# Altium schematic symbol library MCU_ST_STM32H7.SchLib: 225 symbols (part 9 of 9)
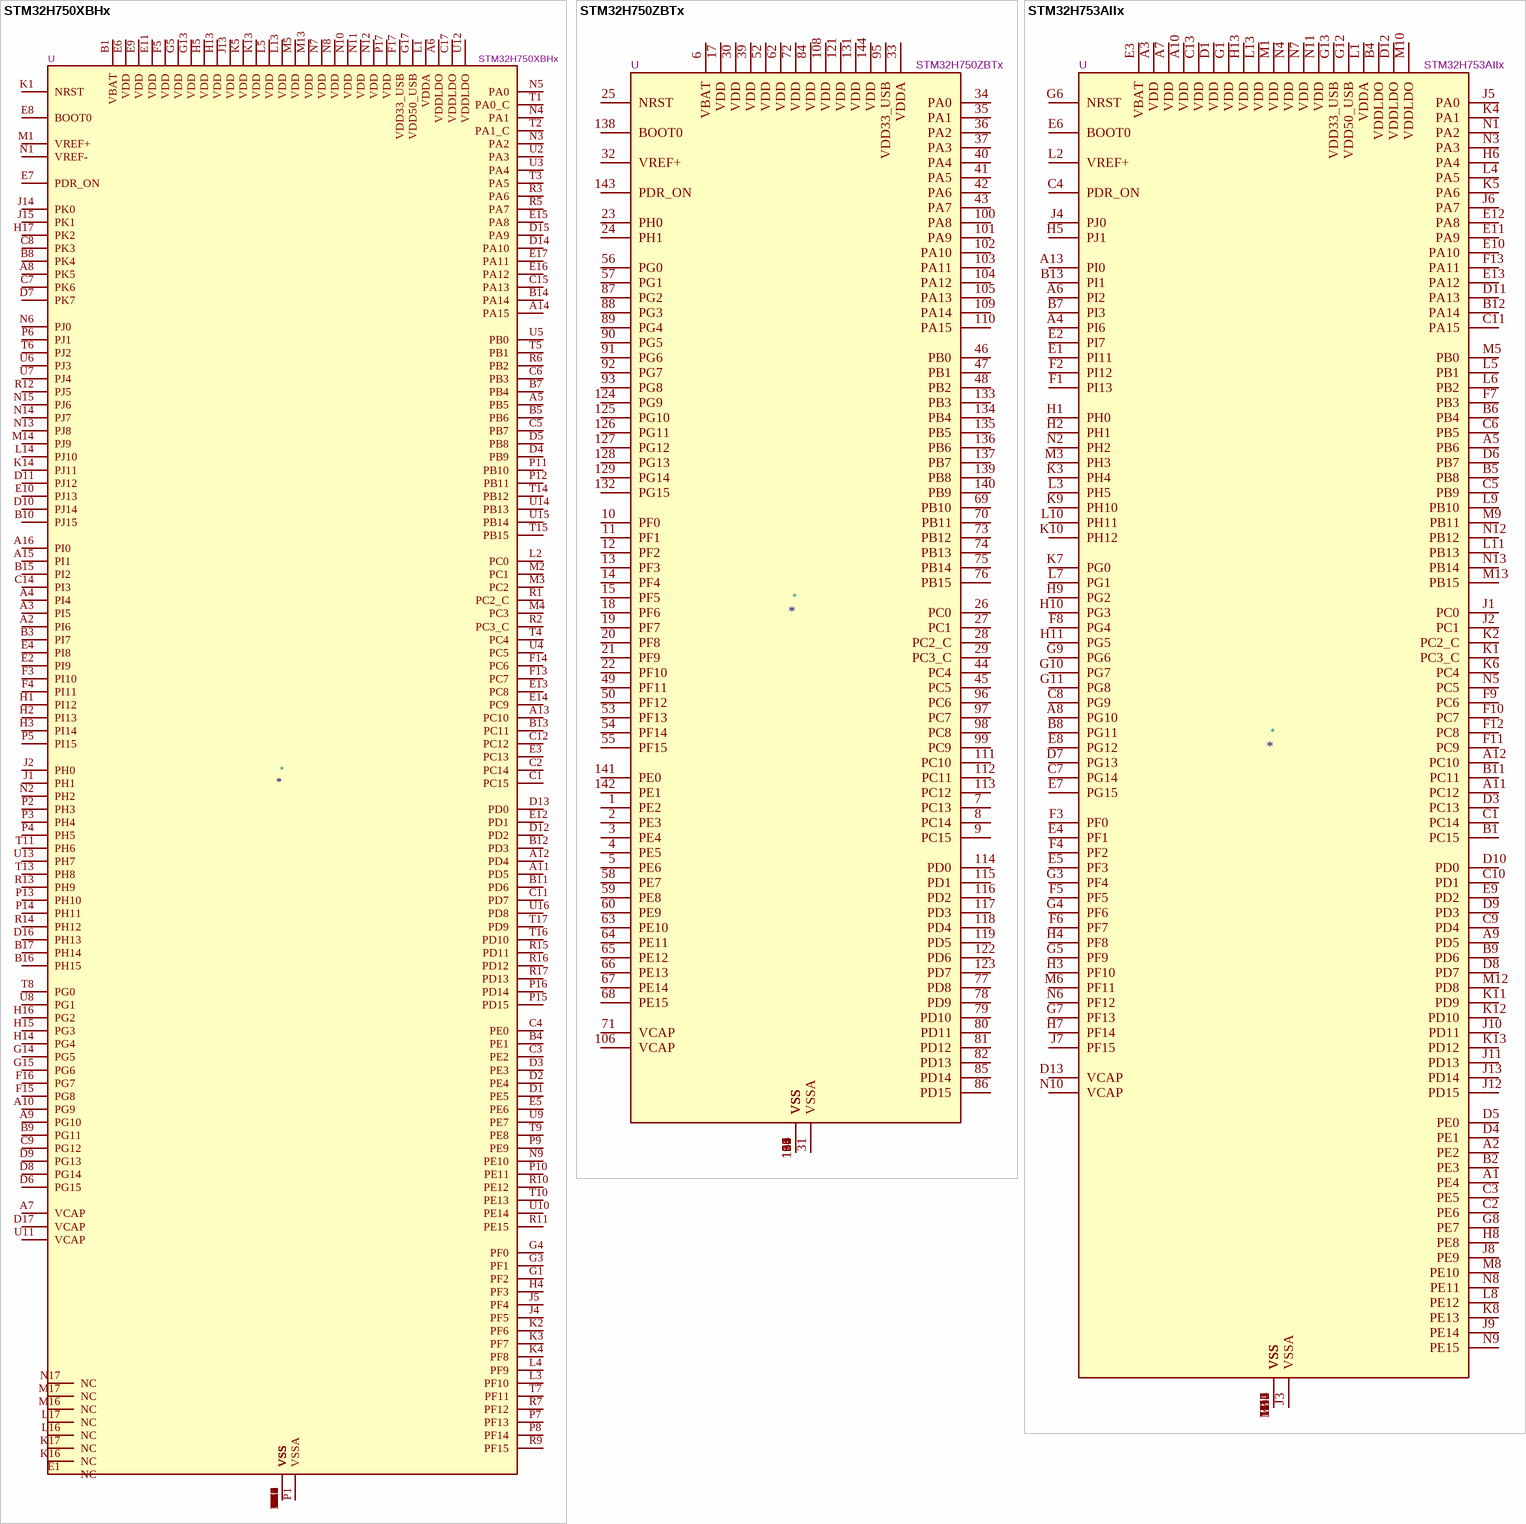
[diagram p95: symbols STM32H750XBHx to STM32H753AIIx]

## STM32H750XBHx
designator *  value STM32H750XBHx  Reference: U
STMicroelectronics Arm Cortex-M7 MCU, 128KB flash, 1024KB RAM, 480 MHz, 1.62-3.6V, 172 GPIO, TFBGA240; ki_keywords: Arm Cortex-M7 STM32H7 STM32H750 Value line; ki_fp_filters: TFBGA*14x14mm*Layout17x17*P0.8mm*; Footprint: Package_BGA:TFBGA-265_14x14mm_Layout17x17_P0.8mm; Datasheet: https://www.st.com/resource/en/datasheet/stm32h750xb.pdf; Description_: STMicroelectronics Arm Cortex-M7 MCU, 128KB flash, 1024KB RAM, 480 MHz, 1.62-3.6V, 172 GPIO, TFBGA240
pins: A1 VSS, A2 PI6, A3 PI5, A4 PI4, A5 PB5, A6 VDDLDO, A7 VCAP, A8 PK5, A9 PG10, A10 PG9, A11 PD5, A12 PD4, A13 PC10, A14 PA15, A15 PI1, A16 PI0, A17 VSS, B1 VBAT, B2 VSS, B3 PI7, B4 PE1, B5 PB6, B6 VSS, B7 PB4, B8 PK4, B9 PG11, B10 PJ15, B11 PD6, B12 PD3, B13 PC11, B14 PA14, B15 PI2, B16 PH15, B17 PH14, C1 PC15, C2 PC14, C3 PE2, C4 PE0, C5 PB7, C6 PB3, C7 PK6, C8 PK3, C9 PG12, C10 VSS, C11 PD7, C12 PC12, C13 VSS, C14 PI3, C15 PA13, C16 VSS, C17 VDDLDO, D1 PE5, D2 PE4, D3 PE3, D4 PB9, D5 PB8, D6 PG15, D7 PK7, D8 PG14, D9 PG13, D10 PJ14, D11 PJ12, D12 PD2, D13 PD0, D14 PA10, D15 PA9, D16 PH13, D17 VCAP, E1 NC, E2 PI9, E3 PC13, E4 PI8, E5 PE6, E6 VDD, E7 PDR_ON, E8 BOOT0, E9 VDD, E10 PJ13, E11 VDD, E12 PD1, E13 PC8, E14 PC9, E15 PA8, E16 PA12, E17 PA11, F1 VSS, F2 VSS, F3 PI10, F4 PI11, F5 VDD, F13 PC7, F14 PC6, F15 PG8, F16 PG7, F17 VDD33_USB, G1 PF2, G2 VSS, G3 PF1, G4 PF0, G5 VDD, G7 VSS, G8 VSS, G9 VSS, G10 VSS, G11 VSS, G13 VDD, G14 PG5, G15 PG6, G16 VSS, G17 VDD50_USB, H1 PI12, H2 PI13, H3 PI14, H4 PF3, H5 VDD, H7 VSS, H8 VSS, H9 VSS, H10 VSS, H11 VSS, H13 VDD, H14 PG4, H15 PG3, H16 PG2, H17 PK2, J1 PH1, J2 PH0, J3 VSS, J4 PF5, J5 PF4, J7 VSS, J8 VSS, J9 VSS, J10 VSS, J11 VSS, J13 VDD, J14 PK0, J15 PK1, J16 VSS, J17 VSS, K1 NRST, K2 PF6, K3 PF7, K4 PF8, K5 VDD, K7 VSS, K8 VSS, K9 VSS, K10 VSS, K11 VSS, K13 VDD, K14 PJ11, K15 VSS, K16 NC, K17 NC, L1 VDDA, L2 PC0, L3 PF10, L4 PF9, L5 VDD, L7 VSS, L8 VSS, L9 VSS, L10 VSS, L11 VSS, L13 VDD, L14 PJ10, L15 VSS, L16 NC, L17 NC, M1 VREF+, M2 PC1, M3 PC2, M4 PC3, M5 VDD, M13 VDD, M14 PJ9, M15 VSS, M16 NC, M17 NC, N1 VREF-, N2 PH2, N3 PA2, N4 PA1, N5 PA0, N6 PJ0, N7 VDD, N8 VDD, N9 PE10, N10 VDD, N11 VDD, N12 VDD, N13 PJ8, N14 PJ7, N15 PJ6, N16 VSS, N17 NC, P1 VSSA, P2 PH3, P3 PH4, P4 PH5, P5 PI15, P6 PJ1, P7 PF13, P8 PF14, P9 PE9, P10 PE11, P11 PB10, P12 PB11, P13 PH10, P14 PH11, P15 PD15, P16 PD14, P17 VDD, R1 PC2_C, R2 PC3_C, R3 PA6, R4 VSS, R5 PA7, R6 PB2, R7 PF12, R8 VSS, R9 PF15, R10 PE12, R11 PE15, R12 PJ5, R13 PH9, R14 PH12, R15 PD11, R16 PD12, R17 PD13, T1 PA0_C, T2 PA1_C, T3 PA5, T4 PC4, T5 PB1, T6 PJ2, T7 PF11, T8 PG0, T9 PE8, T10 PE13, T11 PH6, T12 VSS, T13 PH8, T14 PB12, T15 PB15, T16 PD10, T17 PD9, U1 VSS, U2 PA3, U3 PA4, U4 PC5, U5 PB0, U6 PJ3, U7 PJ4, U8 PG1, U9 PE7, U10 PE14, U11 VCAP, U12 VDDLDO, U13 PH7, U14 PB13, U15 PB14, U16 PD8, U17 VSS

## STM32H750ZBTx
designator *  value STM32H750ZBTx  Reference: U
STMicroelectronics Arm Cortex-M7 MCU, 128KB flash, 1024KB RAM, 480 MHz, 1.62-3.6V, 114 GPIO, LQFP144; ki_keywords: Arm Cortex-M7 STM32H7 STM32H750 Value line; ki_fp_filters: LQFP*20x20mm*P0.5mm*; Footprint: Package_QFP:LQFP-144_20x20mm_P0.5mm; Datasheet: https://www.st.com/resource/en/datasheet/stm32h750zb.pdf; Description_: STMicroelectronics Arm Cortex-M7 MCU, 128KB flash, 1024KB RAM, 480 MHz, 1.62-3.6V, 114 GPIO, LQFP144
pins: 1 PE2, 2 PE3, 3 PE4, 4 PE5, 5 PE6, 6 VBAT, 7 PC13, 8 PC14, 9 PC15, 10 PF0, 11 PF1, 12 PF2, 13 PF3, 14 PF4, 15 PF5, 16 VSS, 17 VDD, 18 PF6, 19 PF7, 20 PF8, 21 PF9, 22 PF10, 23 PH0, 24 PH1, 25 NRST, 26 PC0, 27 PC1, 28 PC2_C, 29 PC3_C, 30 VDD, 31 VSSA, 32 VREF+, 33 VDDA, 34 PA0, 35 PA1, 36 PA2, 37 PA3, 38 VSS, 39 VDD, 40 PA4, 41 PA5, 42 PA6, 43 PA7, 44 PC4, 45 PC5, 46 PB0, 47 PB1, 48 PB2, 49 PF11, 50 PF12, 51 VSS, 52 VDD, 53 PF13, 54 PF14, 55 PF15, 56 PG0, 57 PG1, 58 PE7, 59 PE8, 60 PE9, 61 VSS, 62 VDD, 63 PE10, 64 PE11, 65 PE12, 66 PE13, 67 PE14, 68 PE15, 69 PB10, 70 PB11, 71 VCAP, 72 VDD, 73 PB12, 74 PB13, 75 PB14, 76 PB15, 77 PD8, 78 PD9, 79 PD10, 80 PD11, 81 PD12, 82 PD13, 83 VSS, 84 VDD, 85 PD14, 86 PD15, 87 PG2, 88 PG3, 89 PG4, 90 PG5, 91 PG6, 92 PG7, 93 PG8, 94 VSS, 95 VDD33_USB, 96 PC6, 97 PC7, 98 PC8, 99 PC9, 100 PA8, 101 PA9, 102 PA10, 103 PA11, 104 PA12, 105 PA13, 106 VCAP, 107 VSS, 108 VDD, 109 PA14, 110 PA15, 111 PC10, 112 PC11, 113 PC12, 114 PD0, 115 PD1, 116 PD2, 117 PD3, 118 PD4, 119 PD5, 120 VSS, 121 VDD, 122 PD6, 123 PD7, 124 PG9, 125 PG10, 126 PG11, 127 PG12, 128 PG13, 129 PG14, 130 VSS, 131 VDD, 132 PG15, 133 PB3, 134 PB4, 135 PB5, 136 PB6, 137 PB7, 138 BOOT0, 139 PB8, 140 PB9, 141 PE0, 142 PE1, 143 PDR_ON, 144 VDD

## STM32H753AIIx
designator *  value STM32H753AIIx  Reference: U
STMicroelectronics Arm Cortex-M7 MCU, 2048KB flash, 1024KB RAM, 480 MHz, 1.62-3.6V, 132 GPIO, UFBGA169; ki_keywords: Arm Cortex-M7 STM32H7 STM32H743/753; ki_fp_filters: UFBGA*7x7mm*Layout13x13*P0.5mm*; Footprint: Package_BGA:UFBGA-169_7x7mm_Layout13x13_P0.5mm; Datasheet: https://www.st.com/resource/en/datasheet/stm32h753ai.pdf; Description_: STMicroelectronics Arm Cortex-M7 MCU, 2048KB flash, 1024KB RAM, 480 MHz, 1.62-3.6V, 132 GPIO, UFBGA169
pins: A1 PE4, A2 PE2, A3 VDD, A4 PI6, A5 PB6, A6 PI2, A7 VDD, A8 PG10, A9 PD5, A10 VDD, A11 PC12, A12 PC10, A13 PI0, B1 PC15, B2 PE3, B3 VSS, B4 VDDLDO, B5 PB8, B6 PB4, B7 PI3, B8 PG11, B9 PD6, B10 VSS, B11 PC11, B12 PA14, B13 PI1, C1 PC14, C2 PE6, C3 PE5, C4 PDR_ON, C5 PB9, C6 PB5, C7 PG14, C8 PG9, C9 PD4, C10 PD1, C11 PA15, C12 VSS, C13 VDD, D1 VDD, D2 VSS, D3 PC13, D4 PE1, D5 PE0, D6 PB7, D7 PG13, D8 PD7, D9 PD3, D10 PD0, D11 PA13, D12 VDDLDO, D13 VCAP, E1 PI11, E2 PI7, E3 VBAT, E4 PF1, E5 PF3, E6 BOOT0, E7 PG15, E8 PG12, E9 PD2, E10 PA10, E11 PA9, E12 PA8, E13 PA12, F1 PI13, F2 PI12, F3 PF0, F4 PF2, F5 PF5, F6 PF7, F7 PB3, F8 PG4, F9 PC6, F10 PC7, F11 PC9, F12 PC8, F13 PA11, G1 VDD, G2 VSS, G3 PF4, G4 PF6, G5 PF9, G6 NRST, G7 PF13, G8 PE7, G9 PG6, G10 PG7, G11 PG8, G12 VDD50_USB, G13 VDD33_USB, H1 PH0, H2 PH1, H3 PF10, H4 PF8, H5 PJ1, H6 PA4, H7 PF14, H8 PE8, H9 PG2, H10 PG3, H11 PG5, H12 VSS, H13 VDD, J1 PC0, J2 PC1, J3 VSSA, J4 PJ0, J5 PA0, J6 PA7, J7 PF15, J8 PE9, J9 PE14, J10 PD11, J11 PD13, J12 PD15, J13 PD14, K1 PC3_C, K2 PC2_C, K3 PH4, K4 PA1, K5 PA6, K6 PC4, K7 PG0, K8 PE13, K9 PH10, K10 PH12, K11 PD9, K12 PD10, K13 PD12, L1 VDDA, L2 VREF+, L3 PH5, L4 PA5, L5 PB1, L6 PB2, L7 PG1, L8 PE12, L9 PB10, L10 PH11, L11 PB13, L12 VSS, L13 VDD, M1 VDD, M2 VSS, M3 PH3, M4 VSS, M5 PB0, M6 PF11, M7 VSS, M8 PE10, M9 PB11, M10 VDDLDO, M11 VSS, M12 PD8, M13 PB15, N1 PA2, N2 PH2, N3 PA3, N4 VDD, N5 PC5, N6 PF12, N7 VDD, N8 PE11, N9 PE15, N10 VCAP, N11 VDD, N12 PB12, N13 PB14

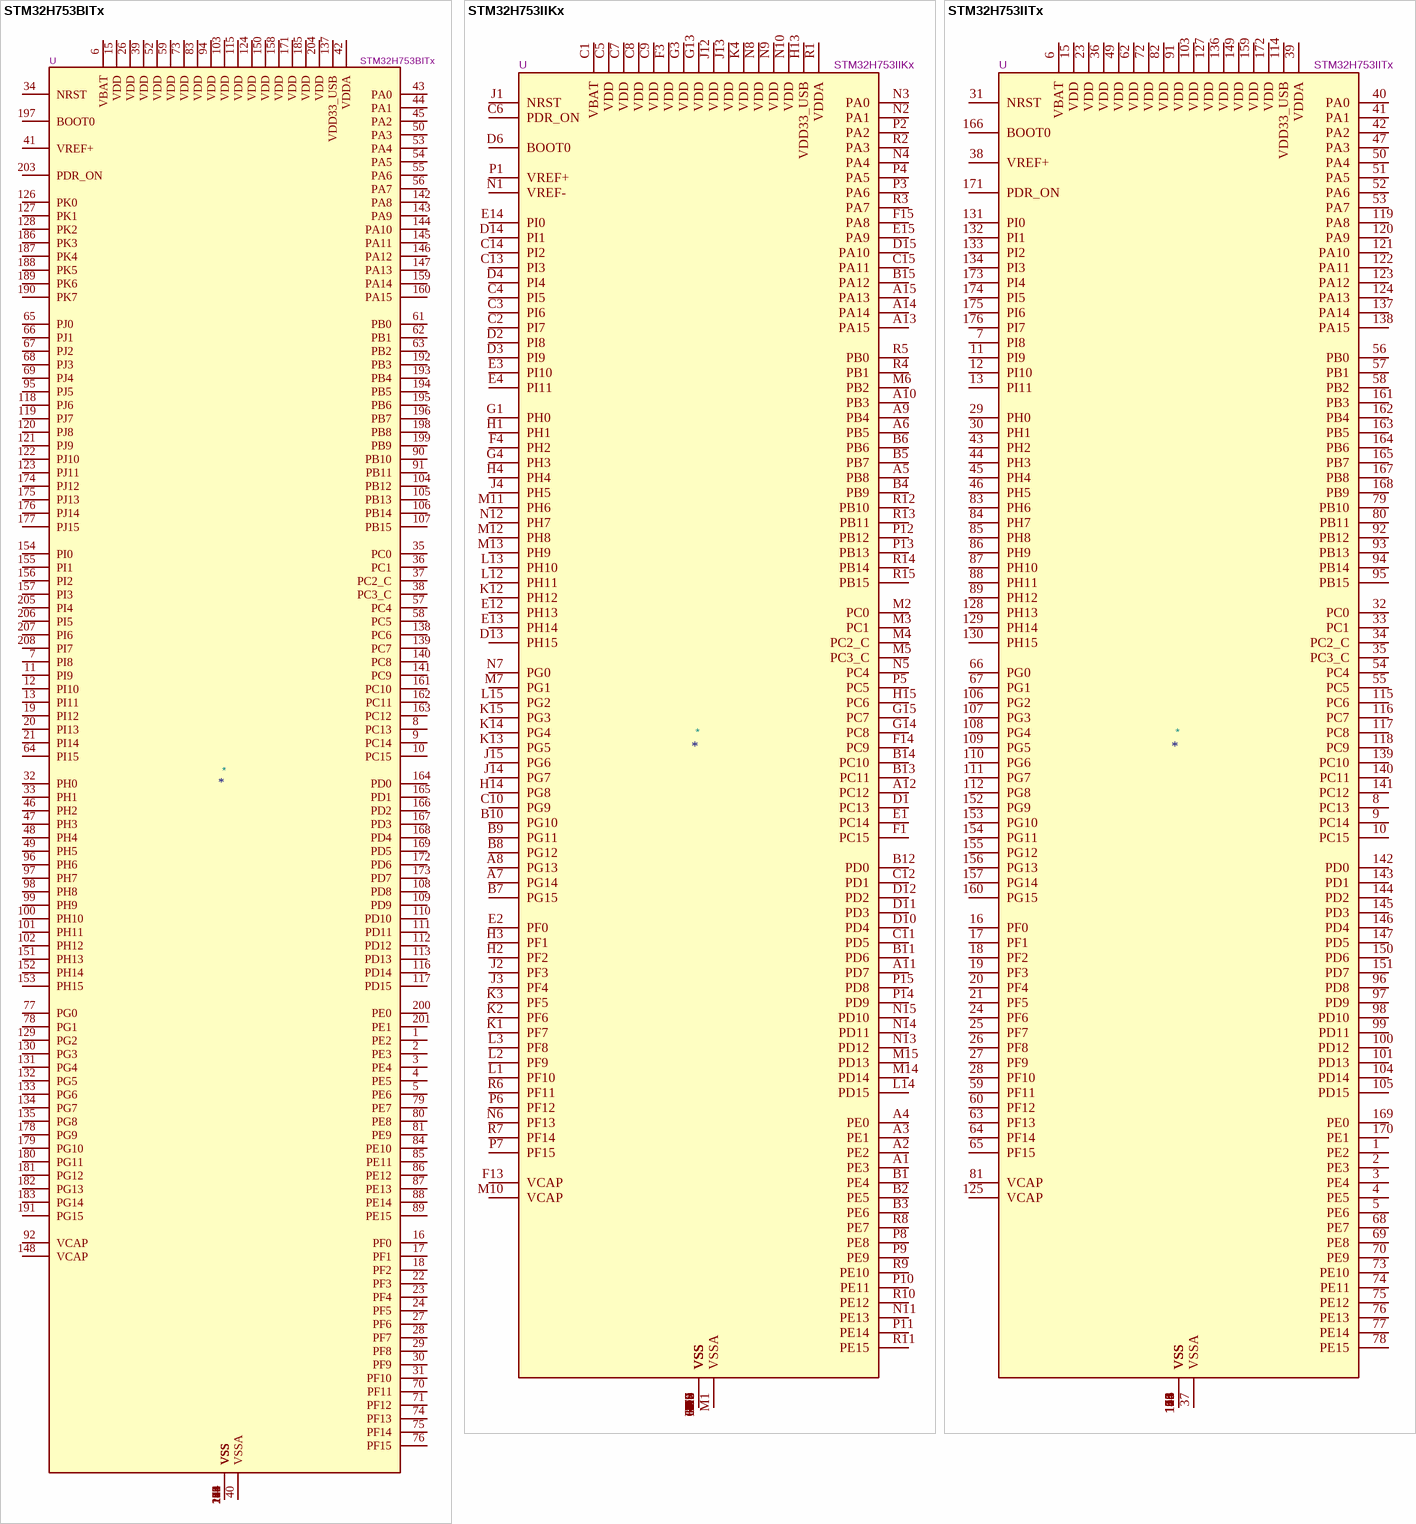
[diagram p81: symbols STM32H753BITx to STM32H753IITx]

## STM32H753BITx
designator *  value STM32H753BITx  Reference: U
STMicroelectronics Arm Cortex-M7 MCU, 2048KB flash, 1024KB RAM, 480 MHz, 1.62-3.6V, 168 GPIO, LQFP208; ki_keywords: Arm Cortex-M7 STM32H7 STM32H743/753; ki_fp_filters: LQFP*28x28mm*P0.5mm*; Footprint: Package_QFP:LQFP-208_28x28mm_P0.5mm; Datasheet: https://www.st.com/resource/en/datasheet/stm32h753bi.pdf; Description_: STMicroelectronics Arm Cortex-M7 MCU, 2048KB flash, 1024KB RAM, 480 MHz, 1.62-3.6V, 168 GPIO, LQFP208
pins: 1 PE2, 2 PE3, 3 PE4, 4 PE5, 5 PE6, 6 VBAT, 7 PI8, 8 PC13, 9 PC14, 10 PC15, 11 PI9, 12 PI10, 13 PI11, 14 VSS, 15 VDD, 16 PF0, 17 PF1, 18 PF2, 19 PI12, 20 PI13, 21 PI14, 22 PF3, 23 PF4, 24 PF5, 25 VSS, 26 VDD, 27 PF6, 28 PF7, 29 PF8, 30 PF9, 31 PF10, 32 PH0, 33 PH1, 34 NRST, 35 PC0, 36 PC1, 37 PC2_C, 38 PC3_C, 39 VDD, 40 VSSA, 41 VREF+, 42 VDDA, 43 PA0, 44 PA1, 45 PA2, 46 PH2, 47 PH3, 48 PH4, 49 PH5, 50 PA3, 51 VSS, 52 VDD, 53 PA4, 54 PA5, 55 PA6, 56 PA7, 57 PC4, 58 PC5, 59 VDD, 60 VSS, 61 PB0, 62 PB1, 63 PB2, 64 PI15, 65 PJ0, 66 PJ1, 67 PJ2, 68 PJ3, 69 PJ4, 70 PF11, 71 PF12, 72 VSS, 73 VDD, 74 PF13, 75 PF14, 76 PF15, 77 PG0, 78 PG1, 79 PE7, 80 PE8, 81 PE9, 82 VSS, 83 VDD, 84 PE10, 85 PE11, 86 PE12, 87 PE13, 88 PE14, 89 PE15, 90 PB10, 91 PB11, 92 VCAP, 93 VSS, 94 VDD, 95 PJ5, 96 PH6, 97 PH7, 98 PH8, 99 PH9, 100 PH10, 101 PH11, 102 PH12, 103 VDD, 104 PB12, 105 PB13, 106 PB14, 107 PB15, 108 PD8, 109 PD9, 110 PD10, 111 PD11, 112 PD12, 113 PD13, 114 VSS, 115 VDD, 116 PD14, 117 PD15, 118 PJ6, 119 PJ7, 120 PJ8, 121 PJ9, 122 PJ10, 123 PJ11, 124 VDD, 125 VSS, 126 PK0, 127 PK1, 128 PK2, 129 PG2, 130 PG3, 131 PG4, 132 PG5, 133 PG6, 134 PG7, 135 PG8, 136 VSS, 137 VDD33_USB, 138 PC6, 139 PC7, 140 PC8, 141 PC9, 142 PA8, 143 PA9, 144 PA10, 145 PA11, 146 PA12, 147 PA13, 148 VCAP, 149 VSS, 150 VDD, 151 PH13, 152 PH14, 153 PH15, 154 PI0, 155 PI1, 156 PI2, 157 PI3, 158 VDD, 159 PA14, 160 PA15, 161 PC10, 162 PC11, 163 PC12, 164 PD0, 165 PD1, 166 PD2, 167 PD3, 168 PD4, 169 PD5, 170 VSS, 171 VDD, 172 PD6, 173 PD7, 174 PJ12, 175 PJ13, 176 PJ14, 177 PJ15, 178 PG9, 179 PG10, 180 PG11, 181 PG12, 182 PG13, 183 PG14, 184 VSS, 185 VDD, 186 PK3, 187 PK4, 188 PK5, 189 PK6, 190 PK7, 191 PG15, 192 PB3, 193 PB4, 194 PB5, 195 PB6, 196 PB7, 197 BOOT0, 198 PB8, 199 PB9, 200 PE0, 201 PE1, 202 VSS, 203 PDR_ON, 204 VDD, 205 PI4, 206 PI5, 207 PI6, 208 PI7

## STM32H753IIKx
designator *  value STM32H753IIKx  Reference: U
STMicroelectronics Arm Cortex-M7 MCU, 2048KB flash, 1024KB RAM, 480 MHz, 1.62-3.6V, 140 GPIO, UFBGA176; ki_keywords: Arm Cortex-M7 STM32H7 STM32H743/753; ki_fp_filters: UFBGA*10x10mm*Layout15x15*P0.65mm*; Footprint: Package_BGA:UFBGA-201_10x10mm_Layout15x15_P0.65mm; Datasheet: https://www.st.com/resource/en/datasheet/stm32h753ii.pdf; Description_: STMicroelectronics Arm Cortex-M7 MCU, 2048KB flash, 1024KB RAM, 480 MHz, 1.62-3.6V, 140 GPIO, UFBGA176
pins: A1 PE3, A2 PE2, A3 PE1, A4 PE0, A5 PB8, A6 PB5, A7 PG14, A8 PG13, A9 PB4, A10 PB3, A11 PD7, A12 PC12, A13 PA15, A14 PA14, A15 PA13, B1 PE4, B2 PE5, B3 PE6, B4 PB9, B5 PB7, B6 PB6, B7 PG15, B8 PG12, B9 PG11, B10 PG10, B11 PD6, B12 PD0, B13 PC11, B14 PC10, B15 PA12, C1 VBAT, C2 PI7, C3 PI6, C4 PI5, C5 VDD, C6 PDR_ON, C7 VDD, C8 VDD, C9 VDD, C10 PG9, C11 PD5, C12 PD1, C13 PI3, C14 PI2, C15 PA11, D1 PC13, D2 PI8, D3 PI9, D4 PI4, D5 VSS, D6 BOOT0, D7 VSS, D8 VSS, D9 VSS, D10 PD4, D11 PD3, D12 PD2, D13 PH15, D14 PI1, D15 PA10, E1 PC14, E2 PF0, E3 PI10, E4 PI11, E12 PH13, E13 PH14, E14 PI0, E15 PA9, F1 PC15, F2 VSS, F3 VDD, F4 PH2, F6 VSS, F7 VSS, F8 VSS, F9 VSS, F10 VSS, F12 VSS, F13 VCAP, F14 PC9, F15 PA8, G1 PH0, G2 VSS, G3 VDD, G4 PH3, G6 VSS, G7 VSS, G8 VSS, G9 VSS, G10 VSS, G12 VSS, G13 VDD, G14 PC8, G15 PC7, H1 PH1, H2 PF2, H3 PF1, H4 PH4, H6 VSS, H7 VSS, H8 VSS, H9 VSS, H10 VSS, H12 VSS, H13 VDD33_USB, H14 PG8, H15 PC6, J1 NRST, J2 PF3, J3 PF4, J4 PH5, J6 VSS, J7 VSS, J8 VSS, J9 VSS, J10 VSS, J12 VDD, J13 VDD, J14 PG7, J15 PG6, K1 PF7, K2 PF6, K3 PF5, K4 VDD, K6 VSS, K7 VSS, K8 VSS, K9 VSS, K10 VSS, K12 PH12, K13 PG5, K14 PG4, K15 PG3, L1 PF10, L2 PF9, L3 PF8, L4 VSS, L12 PH11, L13 PH10, L14 PD15, L15 PG2, M1 VSSA, M2 PC0, M3 PC1, M4 PC2_C, M5 PC3_C, M6 PB2, M7 PG1, M8 VSS, M9 VSS, M10 VCAP, M11 PH6, M12 PH8, M13 PH9, M14 PD14, M15 PD13, N1 VREF-, N2 PA1, N3 PA0, N4 PA4, N5 PC4, N6 PF13, N7 PG0, N8 VDD, N9 VDD, N10 VDD, N11 PE13, N12 PH7, N13 PD12, N14 PD11, N15 PD10, P1 VREF+, P2 PA2, P3 PA6, P4 PA5, P5 PC5, P6 PF12, P7 PF15, P8 PE8, P9 PE9, P10 PE11, P11 PE14, P12 PB12, P13 PB13, P14 PD9, P15 PD8, R1 VDDA, R2 PA3, R3 PA7, R4 PB1, R5 PB0, R6 PF11, R7 PF14, R8 PE7, R9 PE10, R10 PE12, R11 PE15, R12 PB10, R13 PB11, R14 PB14, R15 PB15

## STM32H753IITx
designator *  value STM32H753IITx  Reference: U
STMicroelectronics Arm Cortex-M7 MCU, 2048KB flash, 1024KB RAM, 480 MHz, 1.62-3.6V, 140 GPIO, LQFP176; ki_keywords: Arm Cortex-M7 STM32H7 STM32H743/753; ki_fp_filters: LQFP*24x24mm*P0.5mm*; Footprint: Package_QFP:LQFP-176_24x24mm_P0.5mm; Datasheet: https://www.st.com/resource/en/datasheet/stm32h753ii.pdf; Description_: STMicroelectronics Arm Cortex-M7 MCU, 2048KB flash, 1024KB RAM, 480 MHz, 1.62-3.6V, 140 GPIO, LQFP176
pins: 1 PE2, 2 PE3, 3 PE4, 4 PE5, 5 PE6, 6 VBAT, 7 PI8, 8 PC13, 9 PC14, 10 PC15, 11 PI9, 12 PI10, 13 PI11, 14 VSS, 15 VDD, 16 PF0, 17 PF1, 18 PF2, 19 PF3, 20 PF4, 21 PF5, 22 VSS, 23 VDD, 24 PF6, 25 PF7, 26 PF8, 27 PF9, 28 PF10, 29 PH0, 30 PH1, 31 NRST, 32 PC0, 33 PC1, 34 PC2_C, 35 PC3_C, 36 VDD, 37 VSSA, 38 VREF+, 39 VDDA, 40 PA0, 41 PA1, 42 PA2, 43 PH2, 44 PH3, 45 PH4, 46 PH5, 47 PA3, 48 VSS, 49 VDD, 50 PA4, 51 PA5, 52 PA6, 53 PA7, 54 PC4, 55 PC5, 56 PB0, 57 PB1, 58 PB2, 59 PF11, 60 PF12, 61 VSS, 62 VDD, 63 PF13, 64 PF14, 65 PF15, 66 PG0, 67 PG1, 68 PE7, 69 PE8, 70 PE9, 71 VSS, 72 VDD, 73 PE10, 74 PE11, 75 PE12, 76 PE13, 77 PE14, 78 PE15, 79 PB10, 80 PB11, 81 VCAP, 82 VDD, 83 PH6, 84 PH7, 85 PH8, 86 PH9, 87 PH10, 88 PH11, 89 PH12, 90 VSS, 91 VDD, 92 PB12, 93 PB13, 94 PB14, 95 PB15, 96 PD8, 97 PD9, 98 PD10, 99 PD11, 100 PD12, 101 PD13, 102 VSS, 103 VDD, 104 PD14, 105 PD15, 106 PG2, 107 PG3, 108 PG4, 109 PG5, 110 PG6, 111 PG7, 112 PG8, 113 VSS, 114 VDD33_USB, 115 PC6, 116 PC7, 117 PC8, 118 PC9, 119 PA8, 120 PA9, 121 PA10, 122 PA11, 123 PA12, 124 PA13, 125 VCAP, 126 VSS, 127 VDD, 128 PH13, 129 PH14, 130 PH15, 131 PI0, 132 PI1, 133 PI2, 134 PI3, 135 VSS, 136 VDD, 137 PA14, 138 PA15, 139 PC10, 140 PC11, 141 PC12, 142 PD0, 143 PD1, 144 PD2, 145 PD3, 146 PD4, 147 PD5, 148 VSS, 149 VDD, 150 PD6, 151 PD7, 152 PG9, 153 PG10, 154 PG11, 155 PG12, 156 PG13, 157 PG14, 158 VSS, 159 VDD, 160 PG15, 161 PB3, 162 PB4, 163 PB5, 164 PB6, 165 PB7, 166 BOOT0, 167 PB8, 168 PB9, 169 PE0, 170 PE1, 171 PDR_ON, 172 VDD, 173 PI4, 174 PI5, 175 PI6, 176 PI7

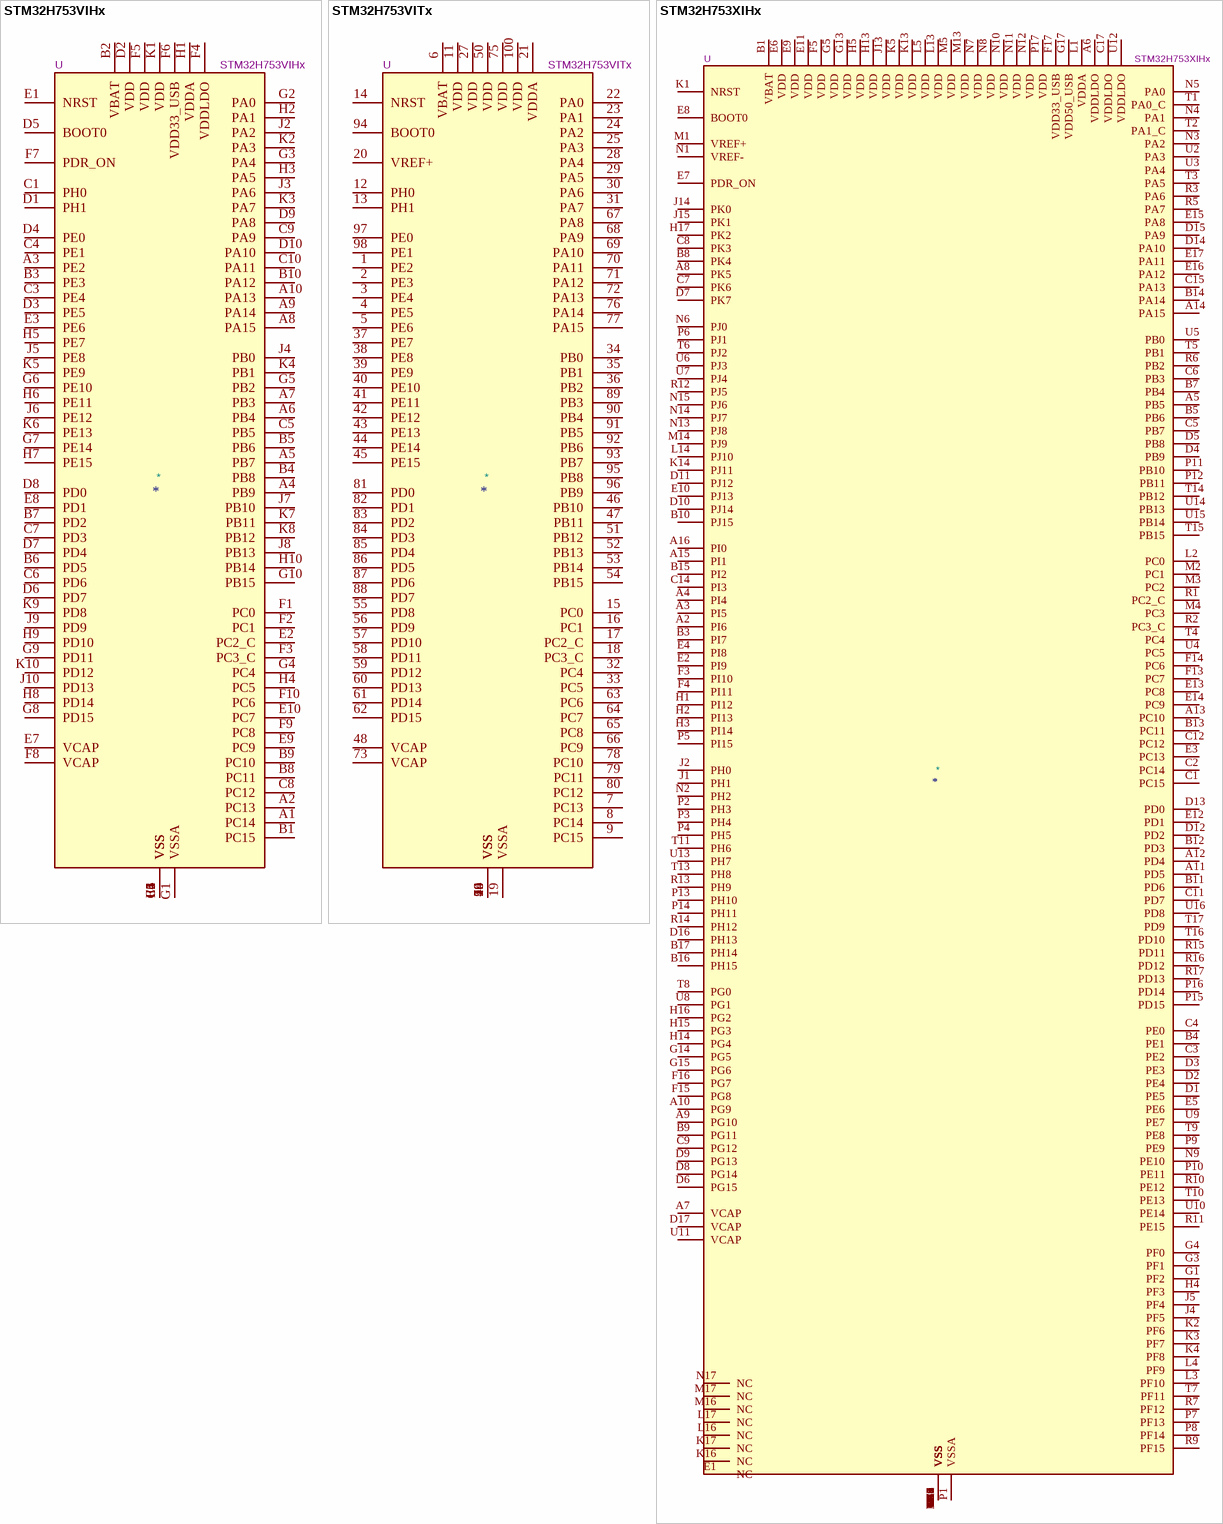
[diagram p82: symbols STM32H753VIHx to STM32H753XIHx]

## STM32H753VIHx
designator *  value STM32H753VIHx  Reference: U
STMicroelectronics Arm Cortex-M7 MCU, 2048KB flash, 1024KB RAM, 480 MHz, 1.71-3.6V, 82 GPIO, TFBGA100; ki_keywords: Arm Cortex-M7 STM32H7 STM32H743/753; ki_fp_filters: TFBGA*8x8mm*Layout10x10*P0.8mm*; Footprint: Package_BGA:TFBGA-100_8x8mm_Layout10x10_P0.8mm; Datasheet: https://www.st.com/resource/en/datasheet/stm32h753vi.pdf; Description_: STMicroelectronics Arm Cortex-M7 MCU, 2048KB flash, 1024KB RAM, 480 MHz, 1.71-3.6V, 82 GPIO, TFBGA100
pins: A1 PC14, A2 PC13, A3 PE2, A4 PB9, A5 PB7, A6 PB4, A7 PB3, A8 PA15, A9 PA14, A10 PA13, B1 PC15, B2 VBAT, B3 PE3, B4 PB8, B5 PB6, B6 PD5, B7 PD2, B8 PC11, B9 PC10, B10 PA12, C1 PH0, C2 VSS, C3 PE4, C4 PE1, C5 PB5, C6 PD6, C7 PD3, C8 PC12, C9 PA9, C10 PA11, D1 PH1, D2 VDD, D3 PE5, D4 PE0, D5 BOOT0, D6 PD7, D7 PD4, D8 PD0, D9 PA8, D10 PA10, E1 NRST, E2 PC2_C, E3 PE6, E4 VSS, E5 VSS, E6 VSS, E7 VCAP, E8 PD1, E9 PC9, E10 PC7, F1 PC0, F2 PC1, F3 PC3_C, F4 VDDLDO, F5 VDD, F6 VDD33_USB, F7 PDR_ON, F8 VCAP, F9 PC8, F10 PC6, G1 VSSA, G2 PA0, G3 PA4, G4 PC4, G5 PB2, G6 PE10, G7 PE14, G8 PD15, G9 PD11, G10 PB15, H1 VDDA, H2 PA1, H3 PA5, H4 PC5, H5 PE7, H6 PE11, H7 PE15, H8 PD14, H9 PD10, H10 PB14, J1 VSS, J2 PA2, J3 PA6, J4 PB0, J5 PE8, J6 PE12, J7 PB10, J8 PB13, J9 PD9, J10 PD13, K1 VDD, K2 PA3, K3 PA7, K4 PB1, K5 PE9, K6 PE13, K7 PB11, K8 PB12, K9 PD8, K10 PD12

## STM32H753VITx
designator *  value STM32H753VITx  Reference: U
STMicroelectronics Arm Cortex-M7 MCU, 2048KB flash, 1024KB RAM, 480 MHz, 1.71-3.6V, 82 GPIO, LQFP100; ki_keywords: Arm Cortex-M7 STM32H7 STM32H743/753; ki_fp_filters: LQFP*14x14mm*P0.5mm*; Footprint: Package_QFP:LQFP-100_14x14mm_P0.5mm; Datasheet: https://www.st.com/resource/en/datasheet/stm32h753vi.pdf; Description_: STMicroelectronics Arm Cortex-M7 MCU, 2048KB flash, 1024KB RAM, 480 MHz, 1.71-3.6V, 82 GPIO, LQFP100
pins: 1 PE2, 2 PE3, 3 PE4, 4 PE5, 5 PE6, 6 VBAT, 7 PC13, 8 PC14, 9 PC15, 10 VSS, 11 VDD, 12 PH0, 13 PH1, 14 NRST, 15 PC0, 16 PC1, 17 PC2_C, 18 PC3_C, 19 VSSA, 20 VREF+, 21 VDDA, 22 PA0, 23 PA1, 24 PA2, 25 PA3, 26 VSS, 27 VDD, 28 PA4, 29 PA5, 30 PA6, 31 PA7, 32 PC4, 33 PC5, 34 PB0, 35 PB1, 36 PB2, 37 PE7, 38 PE8, 39 PE9, 40 PE10, 41 PE11, 42 PE12, 43 PE13, 44 PE14, 45 PE15, 46 PB10, 47 PB11, 48 VCAP, 49 VSS, 50 VDD, 51 PB12, 52 PB13, 53 PB14, 54 PB15, 55 PD8, 56 PD9, 57 PD10, 58 PD11, 59 PD12, 60 PD13, 61 PD14, 62 PD15, 63 PC6, 64 PC7, 65 PC8, 66 PC9, 67 PA8, 68 PA9, 69 PA10, 70 PA11, 71 PA12, 72 PA13, 73 VCAP, 74 VSS, 75 VDD, 76 PA14, 77 PA15, 78 PC10, 79 PC11, 80 PC12, 81 PD0, 82 PD1, 83 PD2, 84 PD3, 85 PD4, 86 PD5, 87 PD6, 88 PD7, 89 PB3, 90 PB4, 91 PB5, 92 PB6, 93 PB7, 94 BOOT0, 95 PB8, 96 PB9, 97 PE0, 98 PE1, 99 VSS, 100 VDD

## STM32H753XIHx
designator *  value STM32H753XIHx  Reference: U
STMicroelectronics Arm Cortex-M7 MCU, 2048KB flash, 1024KB RAM, 480 MHz, 1.62-3.6V, 172 GPIO, TFBGA240; ki_keywords: Arm Cortex-M7 STM32H7 STM32H743/753; ki_fp_filters: TFBGA*14x14mm*Layout17x17*P0.8mm*; Footprint: Package_BGA:TFBGA-265_14x14mm_Layout17x17_P0.8mm; Datasheet: https://www.st.com/resource/en/datasheet/stm32h753xi.pdf; Description_: STMicroelectronics Arm Cortex-M7 MCU, 2048KB flash, 1024KB RAM, 480 MHz, 1.62-3.6V, 172 GPIO, TFBGA240
pins: A1 VSS, A2 PI6, A3 PI5, A4 PI4, A5 PB5, A6 VDDLDO, A7 VCAP, A8 PK5, A9 PG10, A10 PG9, A11 PD5, A12 PD4, A13 PC10, A14 PA15, A15 PI1, A16 PI0, A17 VSS, B1 VBAT, B2 VSS, B3 PI7, B4 PE1, B5 PB6, B6 VSS, B7 PB4, B8 PK4, B9 PG11, B10 PJ15, B11 PD6, B12 PD3, B13 PC11, B14 PA14, B15 PI2, B16 PH15, B17 PH14, C1 PC15, C2 PC14, C3 PE2, C4 PE0, C5 PB7, C6 PB3, C7 PK6, C8 PK3, C9 PG12, C10 VSS, C11 PD7, C12 PC12, C13 VSS, C14 PI3, C15 PA13, C16 VSS, C17 VDDLDO, D1 PE5, D2 PE4, D3 PE3, D4 PB9, D5 PB8, D6 PG15, D7 PK7, D8 PG14, D9 PG13, D10 PJ14, D11 PJ12, D12 PD2, D13 PD0, D14 PA10, D15 PA9, D16 PH13, D17 VCAP, E1 NC, E2 PI9, E3 PC13, E4 PI8, E5 PE6, E6 VDD, E7 PDR_ON, E8 BOOT0, E9 VDD, E10 PJ13, E11 VDD, E12 PD1, E13 PC8, E14 PC9, E15 PA8, E16 PA12, E17 PA11, F1 VSS, F2 VSS, F3 PI10, F4 PI11, F5 VDD, F13 PC7, F14 PC6, F15 PG8, F16 PG7, F17 VDD33_USB, G1 PF2, G2 VSS, G3 PF1, G4 PF0, G5 VDD, G7 VSS, G8 VSS, G9 VSS, G10 VSS, G11 VSS, G13 VDD, G14 PG5, G15 PG6, G16 VSS, G17 VDD50_USB, H1 PI12, H2 PI13, H3 PI14, H4 PF3, H5 VDD, H7 VSS, H8 VSS, H9 VSS, H10 VSS, H11 VSS, H13 VDD, H14 PG4, H15 PG3, H16 PG2, H17 PK2, J1 PH1, J2 PH0, J3 VSS, J4 PF5, J5 PF4, J7 VSS, J8 VSS, J9 VSS, J10 VSS, J11 VSS, J13 VDD, J14 PK0, J15 PK1, J16 VSS, J17 VSS, K1 NRST, K2 PF6, K3 PF7, K4 PF8, K5 VDD, K7 VSS, K8 VSS, K9 VSS, K10 VSS, K11 VSS, K13 VDD, K14 PJ11, K15 VSS, K16 NC, K17 NC, L1 VDDA, L2 PC0, L3 PF10, L4 PF9, L5 VDD, L7 VSS, L8 VSS, L9 VSS, L10 VSS, L11 VSS, L13 VDD, L14 PJ10, L15 VSS, L16 NC, L17 NC, M1 VREF+, M2 PC1, M3 PC2, M4 PC3, M5 VDD, M13 VDD, M14 PJ9, M15 VSS, M16 NC, M17 NC, N1 VREF-, N2 PH2, N3 PA2, N4 PA1, N5 PA0, N6 PJ0, N7 VDD, N8 VDD, N9 PE10, N10 VDD, N11 VDD, N12 VDD, N13 PJ8, N14 PJ7, N15 PJ6, N16 VSS, N17 NC, P1 VSSA, P2 PH3, P3 PH4, P4 PH5, P5 PI15, P6 PJ1, P7 PF13, P8 PF14, P9 PE9, P10 PE11, P11 PB10, P12 PB11, P13 PH10, P14 PH11, P15 PD15, P16 PD14, P17 VDD, R1 PC2_C, R2 PC3_C, R3 PA6, R4 VSS, R5 PA7, R6 PB2, R7 PF12, R8 VSS, R9 PF15, R10 PE12, R11 PE15, R12 PJ5, R13 PH9, R14 PH12, R15 PD11, R16 PD12, R17 PD13, T1 PA0_C, T2 PA1_C, T3 PA5, T4 PC4, T5 PB1, T6 PJ2, T7 PF11, T8 PG0, T9 PE8, T10 PE13, T11 PH6, T12 VSS, T13 PH8, T14 PB12, T15 PB15, T16 PD10, T17 PD9, U1 VSS, U2 PA3, U3 PA4, U4 PC5, U5 PB0, U6 PJ3, U7 PJ4, U8 PG1, U9 PE7, U10 PE14, U11 VCAP, U12 VDDLDO, U13 PH7, U14 PB13, U15 PB14, U16 PD8, U17 VSS

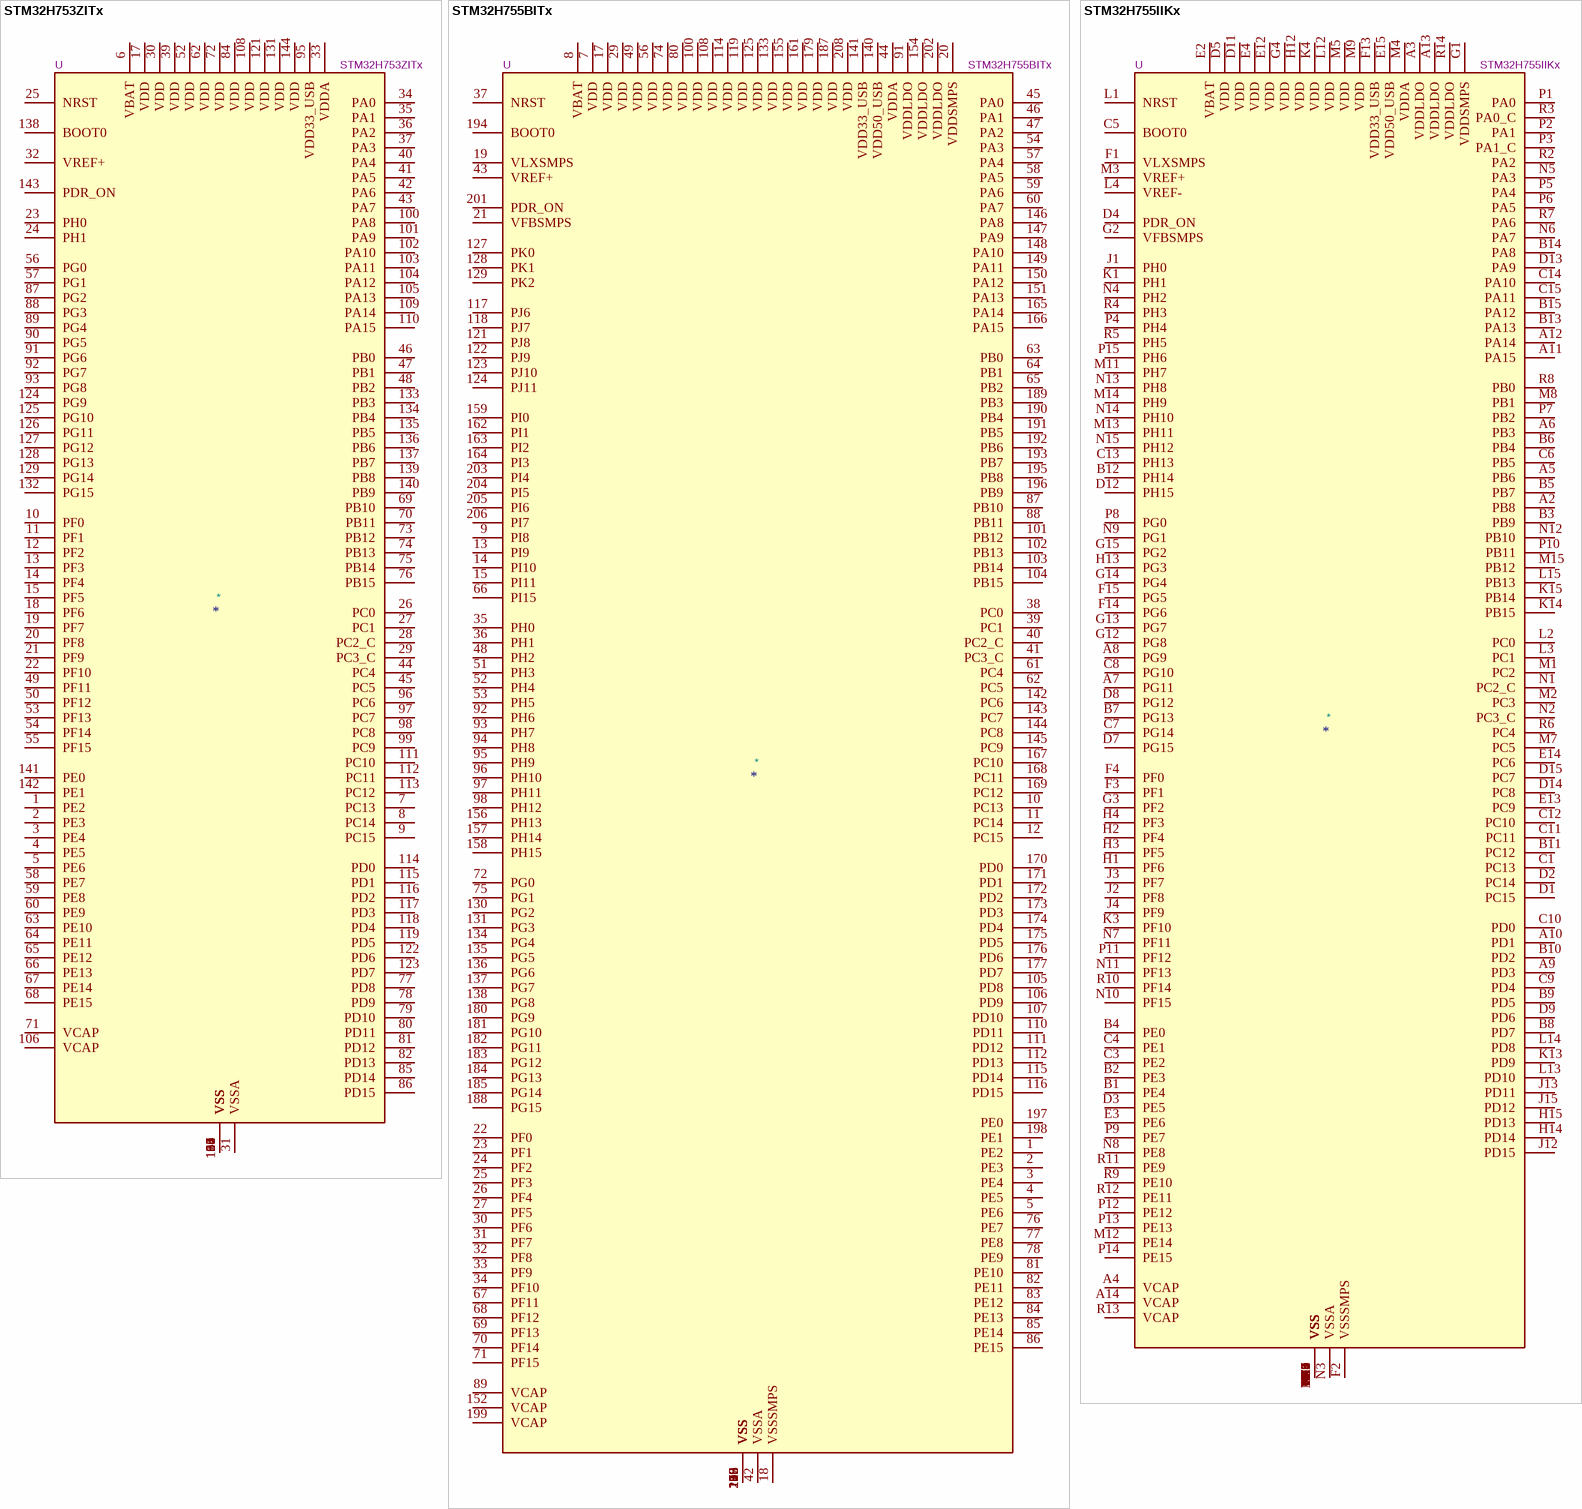
[diagram p83: symbols STM32H753ZITx to STM32H755IIKx]

## STM32H753ZITx
designator *  value STM32H753ZITx  Reference: U
STMicroelectronics Arm Cortex-M7 MCU, 2048KB flash, 1024KB RAM, 480 MHz, 1.62-3.6V, 114 GPIO, LQFP144; ki_keywords: Arm Cortex-M7 STM32H7 STM32H743/753; ki_fp_filters: LQFP*20x20mm*P0.5mm*; Footprint: Package_QFP:LQFP-144_20x20mm_P0.5mm; Datasheet: https://www.st.com/resource/en/datasheet/stm32h753zi.pdf; Description_: STMicroelectronics Arm Cortex-M7 MCU, 2048KB flash, 1024KB RAM, 480 MHz, 1.62-3.6V, 114 GPIO, LQFP144
pins: 1 PE2, 2 PE3, 3 PE4, 4 PE5, 5 PE6, 6 VBAT, 7 PC13, 8 PC14, 9 PC15, 10 PF0, 11 PF1, 12 PF2, 13 PF3, 14 PF4, 15 PF5, 16 VSS, 17 VDD, 18 PF6, 19 PF7, 20 PF8, 21 PF9, 22 PF10, 23 PH0, 24 PH1, 25 NRST, 26 PC0, 27 PC1, 28 PC2_C, 29 PC3_C, 30 VDD, 31 VSSA, 32 VREF+, 33 VDDA, 34 PA0, 35 PA1, 36 PA2, 37 PA3, 38 VSS, 39 VDD, 40 PA4, 41 PA5, 42 PA6, 43 PA7, 44 PC4, 45 PC5, 46 PB0, 47 PB1, 48 PB2, 49 PF11, 50 PF12, 51 VSS, 52 VDD, 53 PF13, 54 PF14, 55 PF15, 56 PG0, 57 PG1, 58 PE7, 59 PE8, 60 PE9, 61 VSS, 62 VDD, 63 PE10, 64 PE11, 65 PE12, 66 PE13, 67 PE14, 68 PE15, 69 PB10, 70 PB11, 71 VCAP, 72 VDD, 73 PB12, 74 PB13, 75 PB14, 76 PB15, 77 PD8, 78 PD9, 79 PD10, 80 PD11, 81 PD12, 82 PD13, 83 VSS, 84 VDD, 85 PD14, 86 PD15, 87 PG2, 88 PG3, 89 PG4, 90 PG5, 91 PG6, 92 PG7, 93 PG8, 94 VSS, 95 VDD33_USB, 96 PC6, 97 PC7, 98 PC8, 99 PC9, 100 PA8, 101 PA9, 102 PA10, 103 PA11, 104 PA12, 105 PA13, 106 VCAP, 107 VSS, 108 VDD, 109 PA14, 110 PA15, 111 PC10, 112 PC11, 113 PC12, 114 PD0, 115 PD1, 116 PD2, 117 PD3, 118 PD4, 119 PD5, 120 VSS, 121 VDD, 122 PD6, 123 PD7, 124 PG9, 125 PG10, 126 PG11, 127 PG12, 128 PG13, 129 PG14, 130 VSS, 131 VDD, 132 PG15, 133 PB3, 134 PB4, 135 PB5, 136 PB6, 137 PB7, 138 BOOT0, 139 PB8, 140 PB9, 141 PE0, 142 PE1, 143 PDR_ON, 144 VDD

## STM32H755BITx
designator *  value STM32H755BITx  Reference: U
STMicroelectronics Arm Cortex-M7 MCU, 2048KB flash, 1024KB RAM, 480 MHz, 1.62-3.6V, 150 GPIO, LQFP208; ki_keywords: Arm Cortex-M7 STM32H7 STM32H745/755; ki_fp_filters: LQFP*28x28mm*P0.5mm*; Footprint: Package_QFP:LQFP-208_28x28mm_P0.5mm; Datasheet: https://www.st.com/resource/en/datasheet/stm32h755bi.pdf; Description_: STMicroelectronics Arm Cortex-M7 MCU, 2048KB flash, 1024KB RAM, 480 MHz, 1.62-3.6V, 150 GPIO, LQFP208
pins: 1 PE2, 2 PE3, 3 PE4, 4 PE5, 5 PE6, 6 VSS, 7 VDD, 8 VBAT, 9 PI8, 10 PC13, 11 PC14, 12 PC15, 13 PI9, 14 PI10, 15 PI11, 16 VSS, 17 VDD, 18 VSSSMPS, 19 VLXSMPS, 20 VDDSMPS, 21 VFBSMPS, 22 PF0, 23 PF1, 24 PF2, 25 PF3, 26 PF4, 27 PF5, 28 VSS, 29 VDD, 30 PF6, 31 PF7, 32 PF8, 33 PF9, 34 PF10, 35 PH0, 36 PH1, 37 NRST, 38 PC0, 39 PC1, 40 PC2_C, 41 PC3_C, 42 VSSA, 43 VREF+, 44 VDDA, 45 PA0, 46 PA1, 47 PA2, 48 PH2, 49 VDD, 50 VSS, 51 PH3, 52 PH4, 53 PH5, 54 PA3, 55 VSS, 56 VDD, 57 PA4, 58 PA5, 59 PA6, 60 PA7, 61 PC4, 62 PC5, 63 PB0, 64 PB1, 65 PB2, 66 PI15, 67 PF11, 68 PF12, 69 PF13, 70 PF14, 71 PF15, 72 PG0, 73 VSS, 74 VDD, 75 PG1, 76 PE7, 77 PE8, 78 PE9, 79 VSS, 80 VDD, 81 PE10, 82 PE11, 83 PE12, 84 PE13, 85 PE14, 86 PE15, 87 PB10, 88 PB11, 89 VCAP, 90 VSS, 91 VDDLDO, 92 PH6, 93 PH7, 94 PH8, 95 PH9, 96 PH10, 97 PH11, 98 PH12, 99 VSS, 100 VDD, 101 PB12, 102 PB13, 103 PB14, 104 PB15, 105 PD8, 106 PD9, 107 PD10, 108 VDD, 109 VSS, 110 PD11, 111 PD12, 112 PD13, 113 VSS, 114 VDD, 115 PD14, 116 PD15, 117 PJ6, 118 PJ7, 119 VDD, 120 VSS, 121 PJ8, 122 PJ9, 123 PJ10, 124 PJ11, 125 VDD, 126 VSS, 127 PK0, 128 PK1, 129 PK2, 130 PG2, 131 PG3, 132 VSS, 133 VDD, 134 PG4, 135 PG5, 136 PG6, 137 PG7, 138 PG8, 139 VSS, 140 VDD50_USB, 141 VDD33_USB, 142 PC6, 143 PC7, 144 PC8, 145 PC9, 146 PA8, 147 PA9, 148 PA10, 149 PA11, 150 PA12, 151 PA13, 152 VCAP, 153 VSS, 154 VDDLDO, 155 VDD, 156 PH13, 157 PH14, 158 PH15, 159 PI0, 160 VSS, 161 VDD, 162 PI1, 163 PI2, 164 PI3, 165 PA14, 166 PA15, 167 PC10, 168 PC11, 169 PC12, 170 PD0, 171 PD1, 172 PD2, 173 PD3, 174 PD4, 175 PD5, 176 PD6, 177 PD7, 178 VSS, 179 VDD, 180 PG9, 181 PG10, 182 PG11, 183 PG12, 184 PG13, 185 PG14, 186 VSS, 187 VDD, 188 PG15, 189 PB3, 190 PB4, 191 PB5, 192 PB6, 193 PB7, 194 BOOT0, 195 PB8, 196 PB9, 197 PE0, 198 PE1, 199 VCAP, 200 VSS, 201 PDR_ON, 202 VDDLDO, 203 PI4, 204 PI5, 205 PI6, 206 PI7, 207 VSS, 208 VDD

## STM32H755IIKx
designator *  value STM32H755IIKx  Reference: U
STMicroelectronics Arm Cortex-M7 MCU, 2048KB flash, 1024KB RAM, 480 MHz, 1.62-3.6V, 132 GPIO, UFBGA176; ki_keywords: Arm Cortex-M7 STM32H7 STM32H745/755; ki_fp_filters: UFBGA*10x10mm*Layout15x15*P0.65mm*; Footprint: Package_BGA:UFBGA-201_10x10mm_Layout15x15_P0.65mm; Datasheet: https://www.st.com/resource/en/datasheet/stm32h755ii.pdf; Description_: STMicroelectronics Arm Cortex-M7 MCU, 2048KB flash, 1024KB RAM, 480 MHz, 1.62-3.6V, 132 GPIO, UFBGA176
pins: A1 VSS, A2 PB8, A3 VDDLDO, A4 VCAP, A5 PB6, A6 PB3, A7 PG11, A8 PG9, A9 PD3, A10 PD1, A11 PA15, A12 PA14, A13 VDDLDO, A14 VCAP, A15 VSS, B1 PE4, B2 PE3, B3 PB9, B4 PE0, B5 PB7, B6 PB4, B7 PG13, B8 PD7, B9 PD5, B10 PD2, B11 PC12, B12 PH14, B13 PA13, B14 PA8, B15 PA12, C1 PC13, C2 VSS, C3 PE2, C4 PE1, C5 BOOT0, C6 PB5, C7 PG14, C8 PG10, C9 PD4, C10 PD0, C11 PC11, C12 PC10, C13 PH13, C14 PA10, C15 PA11, D1 PC15, D2 PC14, D3 PE5, D4 PDR_ON, D5 VDD, D6 VSS, D7 PG15, D8 PG12, D9 PD6, D10 VSS, D11 VDD, D12 PH15, D13 PA9, D14 PC8, D15 PC7, E1 VSS, E2 VBAT, E3 PE6, E4 VDD, E12 VDD, E13 PC9, E14 PC6, E15 VDD50_USB, F1 VLXSMPS, F2 VSSSMPS, F3 PF1, F4 PF0, F6 VSS, F7 VSS, F8 VSS, F9 VSS, F10 VSS, F12 VSS, F13 VDD33_USB, F14 PG6, F15 PG5, G1 VDDSMPS, G2 VFBSMPS, G3 PF2, G4 VDD, G6 VSS, G7 VSS, G8 VSS, G9 VSS, G10 VSS, G12 PG8, G13 PG7, G14 PG4, G15 PG2, H1 PF6, H2 PF4, H3 PF5, H4 PF3, H6 VSS, H7 VSS, H8 VSS, H9 VSS, H10 VSS, H12 VDD, H13 PG3, H14 PD14, H15 PD13, J1 PH0, J2 PF8, J3 PF7, J4 PF9, J6 VSS, J7 VSS, J8 VSS, J9 VSS, J10 VSS, J12 PD15, J13 PD11, J14 VSS, J15 PD12, K1 PH1, K2 VSS, K3 PF10, K4 VDD, K6 VSS, K7 VSS, K8 VSS, K9 VSS, K10 VSS, K12 VSS, K13 PD9, K14 PB15, K15 PB14, L1 NRST, L2 PC0, L3 PC1, L4 VREF-, L12 VDD, L13 PD10, L14 PD8, L15 PB13, M1 PC2, M2 PC3, M3 VREF+, M4 VDDA, M5 VDD, M6 VSS, M7 PC5, M8 PB1, M9 VDD, M10 VSS, M11 PH7, M12 PE14, M13 PH11, M14 PH9, M15 PB12, N1 PC2_C, N2 PC3_C, N3 VSSA, N4 PH2, N5 PA3, N6 PA7, N7 PF11, N8 PE8, N9 PG1, N10 PF15, N11 PF13, N12 PB10, N13 PH8, N14 PH10, N15 PH12, P1 PA0, P2 PA1, P3 PA1_C, P4 PH4, P5 PA4, P6 PA5, P7 PB2, P8 PG0, P9 PE7, P10 PB11, P11 PF12, P12 PE12, P13 PE13, P14 PE15, P15 PH6, R1 VSS, R2 PA2, R3 PA0_C, R4 PH3, R5 PH5, R6 PC4, R7 PA6, R8 PB0, R9 PE10, R10 PF14, R11 PE9, R12 PE11, R13 VCAP, R14 VDDLDO, R15 VSS

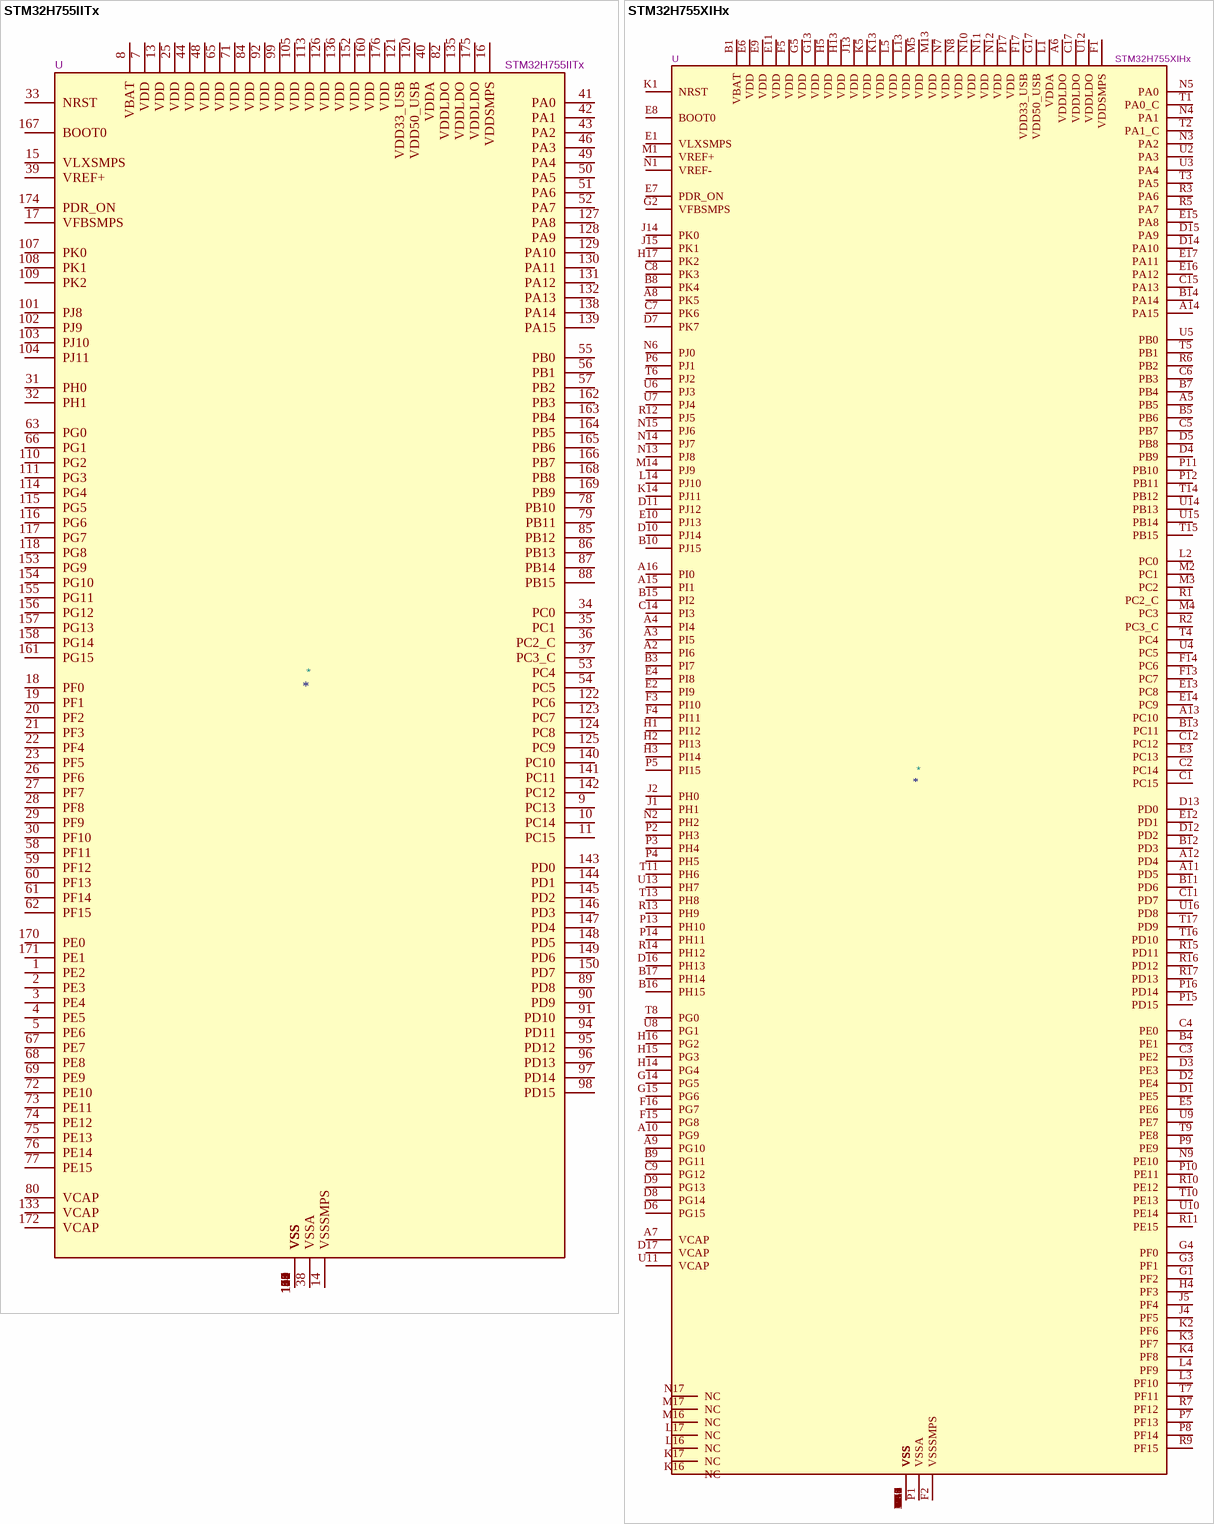
[diagram p84: symbols STM32H755IITx to STM32H755XIHx]

## STM32H755IITx
designator *  value STM32H755IITx  Reference: U
STMicroelectronics Arm Cortex-M7 MCU, 2048KB flash, 1024KB RAM, 480 MHz, 1.62-3.6V, 121 GPIO, LQFP176; ki_keywords: Arm Cortex-M7 STM32H7 STM32H745/755; ki_fp_filters: LQFP*24x24mm*P0.5mm*; Footprint: Package_QFP:LQFP-176_24x24mm_P0.5mm; Datasheet: https://www.st.com/resource/en/datasheet/stm32h755ii.pdf; Description_: STMicroelectronics Arm Cortex-M7 MCU, 2048KB flash, 1024KB RAM, 480 MHz, 1.62-3.6V, 121 GPIO, LQFP176
pins: 1 PE2, 2 PE3, 3 PE4, 4 PE5, 5 PE6, 6 VSS, 7 VDD, 8 VBAT, 9 PC13, 10 PC14, 11 PC15, 12 VSS, 13 VDD, 14 VSSSMPS, 15 VLXSMPS, 16 VDDSMPS, 17 VFBSMPS, 18 PF0, 19 PF1, 20 PF2, 21 PF3, 22 PF4, 23 PF5, 24 VSS, 25 VDD, 26 PF6, 27 PF7, 28 PF8, 29 PF9, 30 PF10, 31 PH0, 32 PH1, 33 NRST, 34 PC0, 35 PC1, 36 PC2_C, 37 PC3_C, 38 VSSA, 39 VREF+, 40 VDDA, 41 PA0, 42 PA1, 43 PA2, 44 VDD, 45 VSS, 46 PA3, 47 VSS, 48 VDD, 49 PA4, 50 PA5, 51 PA6, 52 PA7, 53 PC4, 54 PC5, 55 PB0, 56 PB1, 57 PB2, 58 PF11, 59 PF12, 60 PF13, 61 PF14, 62 PF15, 63 PG0, 64 VSS, 65 VDD, 66 PG1, 67 PE7, 68 PE8, 69 PE9, 70 VSS, 71 VDD, 72 PE10, 73 PE11, 74 PE12, 75 PE13, 76 PE14, 77 PE15, 78 PB10, 79 PB11, 80 VCAP, 81 VSS, 82 VDDLDO, 83 VSS, 84 VDD, 85 PB12, 86 PB13, 87 PB14, 88 PB15, 89 PD8, 90 PD9, 91 PD10, 92 VDD, 93 VSS, 94 PD11, 95 PD12, 96 PD13, 97 PD14, 98 PD15, 99 VDD, 100 VSS, 101 PJ8, 102 PJ9, 103 PJ10, 104 PJ11, 105 VDD, 106 VSS, 107 PK0, 108 PK1, 109 PK2, 110 PG2, 111 PG3, 112 VSS, 113 VDD, 114 PG4, 115 PG5, 116 PG6, 117 PG7, 118 PG8, 119 VSS, 120 VDD50_USB, 121 VDD33_USB, 122 PC6, 123 PC7, 124 PC8, 125 PC9, 126 VDD, 127 PA8, 128 PA9, 129 PA10, 130 PA11, 131 PA12, 132 PA13, 133 VCAP, 134 VSS, 135 VDDLDO, 136 VDD, 137 VSS, 138 PA14, 139 PA15, 140 PC10, 141 PC11, 142 PC12, 143 PD0, 144 PD1, 145 PD2, 146 PD3, 147 PD4, 148 PD5, 149 PD6, 150 PD7, 151 VSS, 152 VDD, 153 PG9, 154 PG10, 155 PG11, 156 PG12, 157 PG13, 158 PG14, 159 VSS, 160 VDD, 161 PG15, 162 PB3, 163 PB4, 164 PB5, 165 PB6, 166 PB7, 167 BOOT0, 168 PB8, 169 PB9, 170 PE0, 171 PE1, 172 VCAP, 173 VSS, 174 PDR_ON, 175 VDDLDO, 176 VDD

## STM32H755XIHx
designator *  value STM32H755XIHx  Reference: U
STMicroelectronics Arm Cortex-M7 MCU, 2048KB flash, 1024KB RAM, 480 MHz, 1.62-3.6V, 172 GPIO, TFBGA240; ki_keywords: Arm Cortex-M7 STM32H7 STM32H745/755; ki_fp_filters: TFBGA*14x14mm*Layout17x17*P0.8mm*; Footprint: Package_BGA:TFBGA-265_14x14mm_Layout17x17_P0.8mm; Datasheet: https://www.st.com/resource/en/datasheet/stm32h755xi.pdf; Description_: STMicroelectronics Arm Cortex-M7 MCU, 2048KB flash, 1024KB RAM, 480 MHz, 1.62-3.6V, 172 GPIO, TFBGA240
pins: A1 VSS, A2 PI6, A3 PI5, A4 PI4, A5 PB5, A6 VDDLDO, A7 VCAP, A8 PK5, A9 PG10, A10 PG9, A11 PD5, A12 PD4, A13 PC10, A14 PA15, A15 PI1, A16 PI0, A17 VSS, B1 VBAT, B2 VSS, B3 PI7, B4 PE1, B5 PB6, B6 VSS, B7 PB4, B8 PK4, B9 PG11, B10 PJ15, B11 PD6, B12 PD3, B13 PC11, B14 PA14, B15 PI2, B16 PH15, B17 PH14, C1 PC15, C2 PC14, C3 PE2, C4 PE0, C5 PB7, C6 PB3, C7 PK6, C8 PK3, C9 PG12, C10 VSS, C11 PD7, C12 PC12, C13 VSS, C14 PI3, C15 PA13, C16 VSS, C17 VDDLDO, D1 PE5, D2 PE4, D3 PE3, D4 PB9, D5 PB8, D6 PG15, D7 PK7, D8 PG14, D9 PG13, D10 PJ14, D11 PJ12, D12 PD2, D13 PD0, D14 PA10, D15 PA9, D16 PH13, D17 VCAP, E1 VLXSMPS, E2 PI9, E3 PC13, E4 PI8, E5 PE6, E6 VDD, E7 PDR_ON, E8 BOOT0, E9 VDD, E10 PJ13, E11 VDD, E12 PD1, E13 PC8, E14 PC9, E15 PA8, E16 PA12, E17 PA11, F1 VDDSMPS, F2 VSSSMPS, F3 PI10, F4 PI11, F5 VDD, F13 PC7, F14 PC6, F15 PG8, F16 PG7, F17 VDD33_USB, G1 PF2, G2 VFBSMPS, G3 PF1, G4 PF0, G5 VDD, G7 VSS, G8 VSS, G9 VSS, G10 VSS, G11 VSS, G13 VDD, G14 PG5, G15 PG6, G16 VSS, G17 VDD50_USB, H1 PI12, H2 PI13, H3 PI14, H4 PF3, H5 VDD, H7 VSS, H8 VSS, H9 VSS, H10 VSS, H11 VSS, H13 VDD, H14 PG4, H15 PG3, H16 PG2, H17 PK2, J1 PH1, J2 PH0, J3 VSS, J4 PF5, J5 PF4, J7 VSS, J8 VSS, J9 VSS, J10 VSS, J11 VSS, J13 VDD, J14 PK0, J15 PK1, J16 VSS, J17 VSS, K1 NRST, K2 PF6, K3 PF7, K4 PF8, K5 VDD, K7 VSS, K8 VSS, K9 VSS, K10 VSS, K11 VSS, K13 VDD, K14 PJ11, K15 VSS, K16 NC, K17 NC, L1 VDDA, L2 PC0, L3 PF10, L4 PF9, L5 VDD, L7 VSS, L8 VSS, L9 VSS, L10 VSS, L11 VSS, L13 VDD, L14 PJ10, L15 VSS, L16 NC, L17 NC, M1 VREF+, M2 PC1, M3 PC2, M4 PC3, M5 VDD, M13 VDD, M14 PJ9, M15 VSS, M16 NC, M17 NC, N1 VREF-, N2 PH2, N3 PA2, N4 PA1, N5 PA0, N6 PJ0, N7 VDD, N8 VDD, N9 PE10, N10 VDD, N11 VDD, N12 VDD, N13 PJ8, N14 PJ7, N15 PJ6, N16 VSS, N17 NC, P1 VSSA, P2 PH3, P3 PH4, P4 PH5, P5 PI15, P6 PJ1, P7 PF13, P8 PF14, P9 PE9, P10 PE11, P11 PB10, P12 PB11, P13 PH10, P14 PH11, P15 PD15, P16 PD14, P17 VDD, R1 PC2_C, R2 PC3_C, R3 PA6, R4 VSS, R5 PA7, R6 PB2, R7 PF12, R8 VSS, R9 PF15, R10 PE12, R11 PE15, R12 PJ5, R13 PH9, R14 PH12, R15 PD11, R16 PD12, R17 PD13, T1 PA0_C, T2 PA1_C, T3 PA5, T4 PC4, T5 PB1, T6 PJ2, T7 PF11, T8 PG0, T9 PE8, T10 PE13, T11 PH6, T12 VSS, T13 PH8, T14 PB12, T15 PB15, T16 PD10, T17 PD9, U1 VSS, U2 PA3, U3 PA4, U4 PC5, U5 PB0, U6 PJ3, U7 PJ4, U8 PG1, U9 PE7, U10 PE14, U11 VCAP, U12 VDDLDO, U13 PH7, U14 PB13, U15 PB14, U16 PD8, U17 VSS

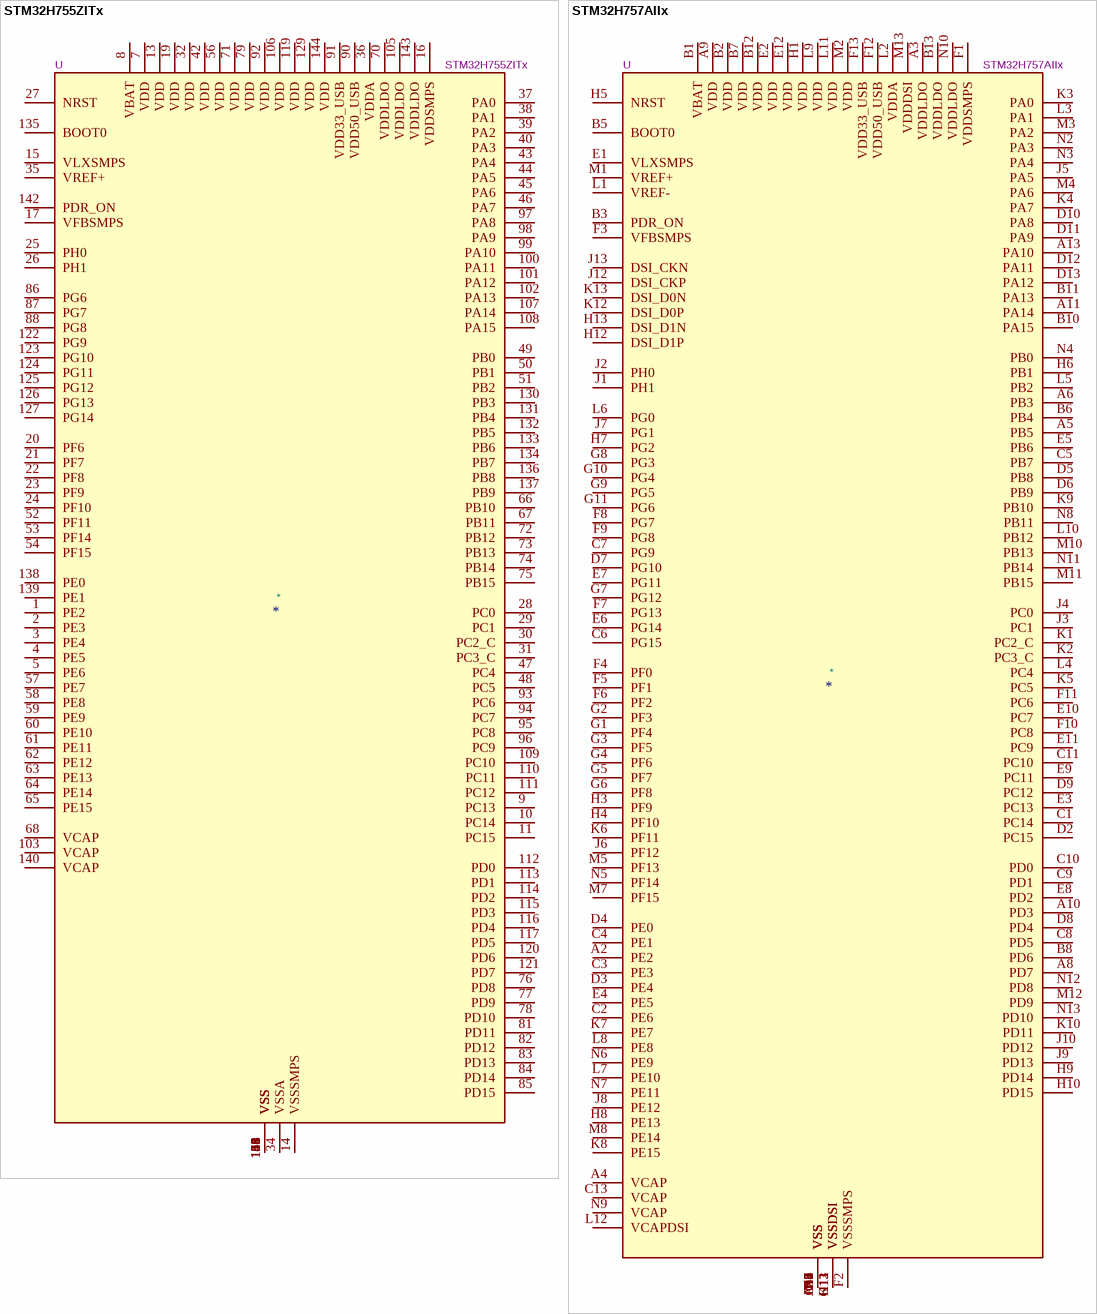
[diagram p85: symbols STM32H755ZITx to STM32H757AIIx]

## STM32H755ZITx
designator *  value STM32H755ZITx  Reference: U
STMicroelectronics Arm Cortex-M7 MCU, 2048KB flash, 1024KB RAM, 480 MHz, 1.62-3.6V, 99 GPIO, LQFP144; ki_keywords: Arm Cortex-M7 STM32H7 STM32H745/755; ki_fp_filters: LQFP*20x20mm*P0.5mm*; Footprint: Package_QFP:LQFP-144_20x20mm_P0.5mm; Datasheet: https://www.st.com/resource/en/datasheet/stm32h755zi.pdf; Description_: STMicroelectronics Arm Cortex-M7 MCU, 2048KB flash, 1024KB RAM, 480 MHz, 1.62-3.6V, 99 GPIO, LQFP144
pins: 1 PE2, 2 PE3, 3 PE4, 4 PE5, 5 PE6, 6 VSS, 7 VDD, 8 VBAT, 9 PC13, 10 PC14, 11 PC15, 12 VSS, 13 VDD, 14 VSSSMPS, 15 VLXSMPS, 16 VDDSMPS, 17 VFBSMPS, 18 VSS, 19 VDD, 20 PF6, 21 PF7, 22 PF8, 23 PF9, 24 PF10, 25 PH0, 26 PH1, 27 NRST, 28 PC0, 29 PC1, 30 PC2_C, 31 PC3_C, 32 VDD, 33 VSS, 34 VSSA, 35 VREF+, 36 VDDA, 37 PA0, 38 PA1, 39 PA2, 40 PA3, 41 VSS, 42 VDD, 43 PA4, 44 PA5, 45 PA6, 46 PA7, 47 PC4, 48 PC5, 49 PB0, 50 PB1, 51 PB2, 52 PF11, 53 PF14, 54 PF15, 55 VSS, 56 VDD, 57 PE7, 58 PE8, 59 PE9, 60 PE10, 61 PE11, 62 PE12, 63 PE13, 64 PE14, 65 PE15, 66 PB10, 67 PB11, 68 VCAP, 69 VSS, 70 VDDLDO, 71 VDD, 72 PB12, 73 PB13, 74 PB14, 75 PB15, 76 PD8, 77 PD9, 78 PD10, 79 VDD, 80 VSS, 81 PD11, 82 PD12, 83 PD13, 84 PD14, 85 PD15, 86 PG6, 87 PG7, 88 PG8, 89 VSS, 90 VDD50_USB, 91 VDD33_USB, 92 VDD, 93 PC6, 94 PC7, 95 PC8, 96 PC9, 97 PA8, 98 PA9, 99 PA10, 100 PA11, 101 PA12, 102 PA13, 103 VCAP, 104 VSS, 105 VDDLDO, 106 VDD, 107 PA14, 108 PA15, 109 PC10, 110 PC11, 111 PC12, 112 PD0, 113 PD1, 114 PD2, 115 PD3, 116 PD4, 117 PD5, 118 VSS, 119 VDD, 120 PD6, 121 PD7, 122 PG9, 123 PG10, 124 PG11, 125 PG12, 126 PG13, 127 PG14, 128 VSS, 129 VDD, 130 PB3, 131 PB4, 132 PB5, 133 PB6, 134 PB7, 135 BOOT0, 136 PB8, 137 PB9, 138 PE0, 139 PE1, 140 VCAP, 141 VSS, 142 PDR_ON, 143 VDDLDO, 144 VDD

## STM32H757AIIx
designator *  value STM32H757AIIx  Reference: U
STMicroelectronics Arm Cortex-M7 MCU, 2048KB flash, 1024KB RAM, 480 MHz, 1.62-3.6V, 114 GPIO, UFBGA169; ki_keywords: Arm Cortex-M7 STM32H7 STM32H747/757; ki_fp_filters: UFBGA*7x7mm*Layout13x13*P0.5mm*; Footprint: Package_BGA:UFBGA-169_7x7mm_Layout13x13_P0.5mm; Datasheet: https://www.st.com/resource/en/datasheet/stm32h757ai.pdf; Description_: STMicroelectronics Arm Cortex-M7 MCU, 2048KB flash, 1024KB RAM, 480 MHz, 1.62-3.6V, 114 GPIO, UFBGA169
pins: A1 VSS, A2 PE2, A3 VDDLDO, A4 VCAP, A5 PB5, A6 PB3, A7 VSS, A8 PD7, A9 VDD, A10 PD3, A11 PA14, A12 VSS, A13 PA10, B1 VBAT, B2 VDD, B3 PDR_ON, B4 VSS, B5 BOOT0, B6 PB4, B7 VDD, B8 PD6, B9 VSS, B10 PA15, B11 PA13, B12 VDD, B13 VDDLDO, C1 PC14, C2 PE6, C3 PE3, C4 PE1, C5 PB7, C6 PG15, C7 PG9, C8 PD5, C9 PD1, C10 PD0, C11 PC10, C12 VSS, C13 VCAP, D1 VSS, D2 PC15, D3 PE4, D4 PE0, D5 PB8, D6 PB9, D7 PG10, D8 PD4, D9 PC12, D10 PA8, D11 PA9, D12 PA11, D13 PA12, E1 VLXSMPS, E2 VDD, E3 PC13, E4 PE5, E5 PB6, E6 PG14, E7 PG11, E8 PD2, E9 PC11, E10 PC7, E11 PC9, E12 VDD, E13 VSS, F1 VDDSMPS, F2 VSSSMPS, F3 VFBSMPS, F4 PF0, F5 PF1, F6 PF2, F7 PG13, F8 PG7, F9 PG8, F10 PC8, F11 PC6, F12 VDD50_USB, F13 VDD33_USB, G1 PF4, G2 PF3, G3 PF5, G4 PF6, G5 PF7, G6 PF8, G7 PG12, G8 PG3, G9 PG5, G10 PG4, G11 PG6, G12 VSSDSI, G13 VSSDSI, H1 VDD, H2 VSS, H3 PF9, H4 PF10, H5 NRST, H6 PB1, H7 PG2, H8 PE13, H9 PD14, H10 PD15, H11 VSSDSI, H12 DSI_D1P, H13 DSI_D1N, J1 PH1, J2 PH0, J3 PC1, J4 PC0, J5 PA5, J6 PF12, J7 PG1, J8 PE12, J9 PD13, J10 PD12, J11 VSSDSI, J12 DSI_CKP, J13 DSI_CKN, K1 PC2_C, K2 PC3_C, K3 PA0, K4 PA7, K5 PC5, K6 PF11, K7 PE7, K8 PE15, K9 PB10, K10 PD11, K11 VSSDSI, K12 DSI_D0P, K13 DSI_D0N, L1 VREF-, L2 VDDA, L3 PA1, L4 PC4, L5 PB2, L6 PG0, L7 PE10, L8 PE8, L9 VDD, L10 PB12, L11 VDD, L12 VCAPDSI, L13 VSS, M1 VREF+, M2 VDD, M3 PA2, M4 PA6, M5 PF13, M6 VSS, M7 PF15, M8 PE14, M9 VSS, M10 PB13, M11 PB15, M12 PD9, M13 VDDDSI, N1 VSS, N2 PA3, N3 PA4, N4 PB0, N5 PF14, N6 PE9, N7 PE11, N8 PB11, N9 VCAP, N10 VDDLDO, N11 PB14, N12 PD8, N13 PD10

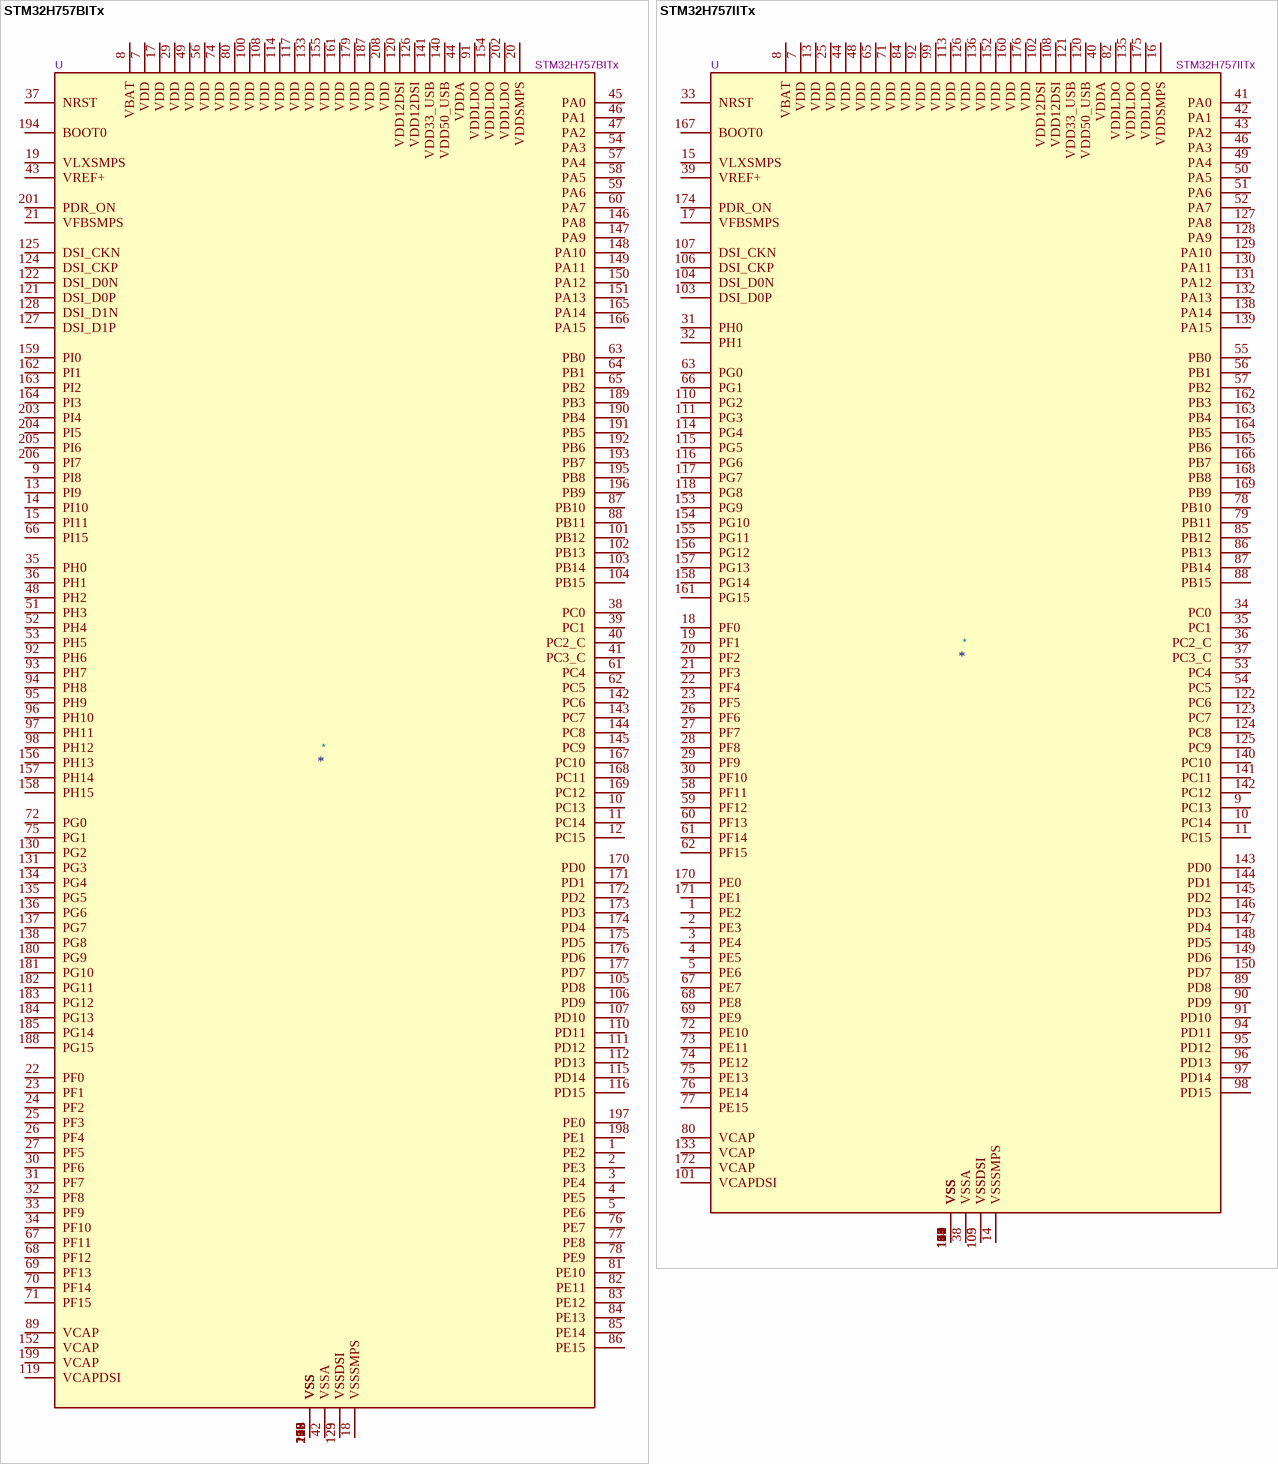
[diagram p86: symbols STM32H757BITx to STM32H757IITx]

## STM32H757BITx
designator *  value STM32H757BITx  Reference: U
STMicroelectronics Arm Cortex-M7 MCU, 2048KB flash, 1024KB RAM, 480 MHz, 1.62-3.6V, 141 GPIO, LQFP208; ki_keywords: Arm Cortex-M7 STM32H7 STM32H747/757; ki_fp_filters: LQFP*28x28mm*P0.5mm*; Footprint: Package_QFP:LQFP-208_28x28mm_P0.5mm; Datasheet: https://www.st.com/resource/en/datasheet/stm32h757bi.pdf; Description_: STMicroelectronics Arm Cortex-M7 MCU, 2048KB flash, 1024KB RAM, 480 MHz, 1.62-3.6V, 141 GPIO, LQFP208
pins: 1 PE2, 2 PE3, 3 PE4, 4 PE5, 5 PE6, 6 VSS, 7 VDD, 8 VBAT, 9 PI8, 10 PC13, 11 PC14, 12 PC15, 13 PI9, 14 PI10, 15 PI11, 16 VSS, 17 VDD, 18 VSSSMPS, 19 VLXSMPS, 20 VDDSMPS, 21 VFBSMPS, 22 PF0, 23 PF1, 24 PF2, 25 PF3, 26 PF4, 27 PF5, 28 VSS, 29 VDD, 30 PF6, 31 PF7, 32 PF8, 33 PF9, 34 PF10, 35 PH0, 36 PH1, 37 NRST, 38 PC0, 39 PC1, 40 PC2_C, 41 PC3_C, 42 VSSA, 43 VREF+, 44 VDDA, 45 PA0, 46 PA1, 47 PA2, 48 PH2, 49 VDD, 50 VSS, 51 PH3, 52 PH4, 53 PH5, 54 PA3, 55 VSS, 56 VDD, 57 PA4, 58 PA5, 59 PA6, 60 PA7, 61 PC4, 62 PC5, 63 PB0, 64 PB1, 65 PB2, 66 PI15, 67 PF11, 68 PF12, 69 PF13, 70 PF14, 71 PF15, 72 PG0, 73 VSS, 74 VDD, 75 PG1, 76 PE7, 77 PE8, 78 PE9, 79 VSS, 80 VDD, 81 PE10, 82 PE11, 83 PE12, 84 PE13, 85 PE14, 86 PE15, 87 PB10, 88 PB11, 89 VCAP, 90 VSS, 91 VDDLDO, 92 PH6, 93 PH7, 94 PH8, 95 PH9, 96 PH10, 97 PH11, 98 PH12, 99 VSS, 100 VDD, 101 PB12, 102 PB13, 103 PB14, 104 PB15, 105 PD8, 106 PD9, 107 PD10, 108 VDD, 109 VSS, 110 PD11, 111 PD12, 112 PD13, 113 VSS, 114 VDD, 115 PD14, 116 PD15, 117 VDD, 118 VSS, 119 VCAPDSI, 120 VDD12DSI, 121 DSI_D0P, 122 DSI_D0N, 123 VSSDSI, 124 DSI_CKP, 125 DSI_CKN, 126 VDD12DSI, 127 DSI_D1P, 128 DSI_D1N, 129 VSSDSI, 130 PG2, 131 PG3, 132 VSS, 133 VDD, 134 PG4, 135 PG5, 136 PG6, 137 PG7, 138 PG8, 139 VSS, 140 VDD50_USB, 141 VDD33_USB, 142 PC6, 143 PC7, 144 PC8, 145 PC9, 146 PA8, 147 PA9, 148 PA10, 149 PA11, 150 PA12, 151 PA13, 152 VCAP, 153 VSS, 154 VDDLDO, 155 VDD, 156 PH13, 157 PH14, 158 PH15, 159 PI0, 160 VSS, 161 VDD, 162 PI1, 163 PI2, 164 PI3, 165 PA14, 166 PA15, 167 PC10, 168 PC11, 169 PC12, 170 PD0, 171 PD1, 172 PD2, 173 PD3, 174 PD4, 175 PD5, 176 PD6, 177 PD7, 178 VSS, 179 VDD, 180 PG9, 181 PG10, 182 PG11, 183 PG12, 184 PG13, 185 PG14, 186 VSS, 187 VDD, 188 PG15, 189 PB3, 190 PB4, 191 PB5, 192 PB6, 193 PB7, 194 BOOT0, 195 PB8, 196 PB9, 197 PE0, 198 PE1, 199 VCAP, 200 VSS, 201 PDR_ON, 202 VDDLDO, 203 PI4, 204 PI5, 205 PI6, 206 PI7, 207 VSS, 208 VDD

## STM32H757IITx
designator *  value STM32H757IITx  Reference: U
STMicroelectronics Arm Cortex-M7 MCU, 2048KB flash, 1024KB RAM, 480 MHz, 1.62-3.6V, 114 GPIO, LQFP176; ki_keywords: Arm Cortex-M7 STM32H7 STM32H747/757; ki_fp_filters: LQFP*24x24mm*P0.5mm*; Footprint: Package_QFP:LQFP-176_24x24mm_P0.5mm; Datasheet: https://www.st.com/resource/en/datasheet/stm32h757ii.pdf; Description_: STMicroelectronics Arm Cortex-M7 MCU, 2048KB flash, 1024KB RAM, 480 MHz, 1.62-3.6V, 114 GPIO, LQFP176
pins: 1 PE2, 2 PE3, 3 PE4, 4 PE5, 5 PE6, 6 VSS, 7 VDD, 8 VBAT, 9 PC13, 10 PC14, 11 PC15, 12 VSS, 13 VDD, 14 VSSSMPS, 15 VLXSMPS, 16 VDDSMPS, 17 VFBSMPS, 18 PF0, 19 PF1, 20 PF2, 21 PF3, 22 PF4, 23 PF5, 24 VSS, 25 VDD, 26 PF6, 27 PF7, 28 PF8, 29 PF9, 30 PF10, 31 PH0, 32 PH1, 33 NRST, 34 PC0, 35 PC1, 36 PC2_C, 37 PC3_C, 38 VSSA, 39 VREF+, 40 VDDA, 41 PA0, 42 PA1, 43 PA2, 44 VDD, 45 VSS, 46 PA3, 47 VSS, 48 VDD, 49 PA4, 50 PA5, 51 PA6, 52 PA7, 53 PC4, 54 PC5, 55 PB0, 56 PB1, 57 PB2, 58 PF11, 59 PF12, 60 PF13, 61 PF14, 62 PF15, 63 PG0, 64 VSS, 65 VDD, 66 PG1, 67 PE7, 68 PE8, 69 PE9, 70 VSS, 71 VDD, 72 PE10, 73 PE11, 74 PE12, 75 PE13, 76 PE14, 77 PE15, 78 PB10, 79 PB11, 80 VCAP, 81 VSS, 82 VDDLDO, 83 VSS, 84 VDD, 85 PB12, 86 PB13, 87 PB14, 88 PB15, 89 PD8, 90 PD9, 91 PD10, 92 VDD, 93 VSS, 94 PD11, 95 PD12, 96 PD13, 97 PD14, 98 PD15, 99 VDD, 100 VSS, 101 VCAPDSI, 102 VDD12DSI, 103 DSI_D0P, 104 DSI_D0N, 105 VSSDSI, 106 DSI_CKP, 107 DSI_CKN, 108 VDD12DSI, 109 VSSDSI, 110 PG2, 111 PG3, 112 VSS, 113 VDD, 114 PG4, 115 PG5, 116 PG6, 117 PG7, 118 PG8, 119 VSS, 120 VDD50_USB, 121 VDD33_USB, 122 PC6, 123 PC7, 124 PC8, 125 PC9, 126 VDD, 127 PA8, 128 PA9, 129 PA10, 130 PA11, 131 PA12, 132 PA13, 133 VCAP, 134 VSS, 135 VDDLDO, 136 VDD, 137 VSS, 138 PA14, 139 PA15, 140 PC10, 141 PC11, 142 PC12, 143 PD0, 144 PD1, 145 PD2, 146 PD3, 147 PD4, 148 PD5, 149 PD6, 150 PD7, 151 VSS, 152 VDD, 153 PG9, 154 PG10, 155 PG11, 156 PG12, 157 PG13, 158 PG14, 159 VSS, 160 VDD, 161 PG15, 162 PB3, 163 PB4, 164 PB5, 165 PB6, 166 PB7, 167 BOOT0, 168 PB8, 169 PB9, 170 PE0, 171 PE1, 172 VCAP, 173 VSS, 174 PDR_ON, 175 VDDLDO, 176 VDD

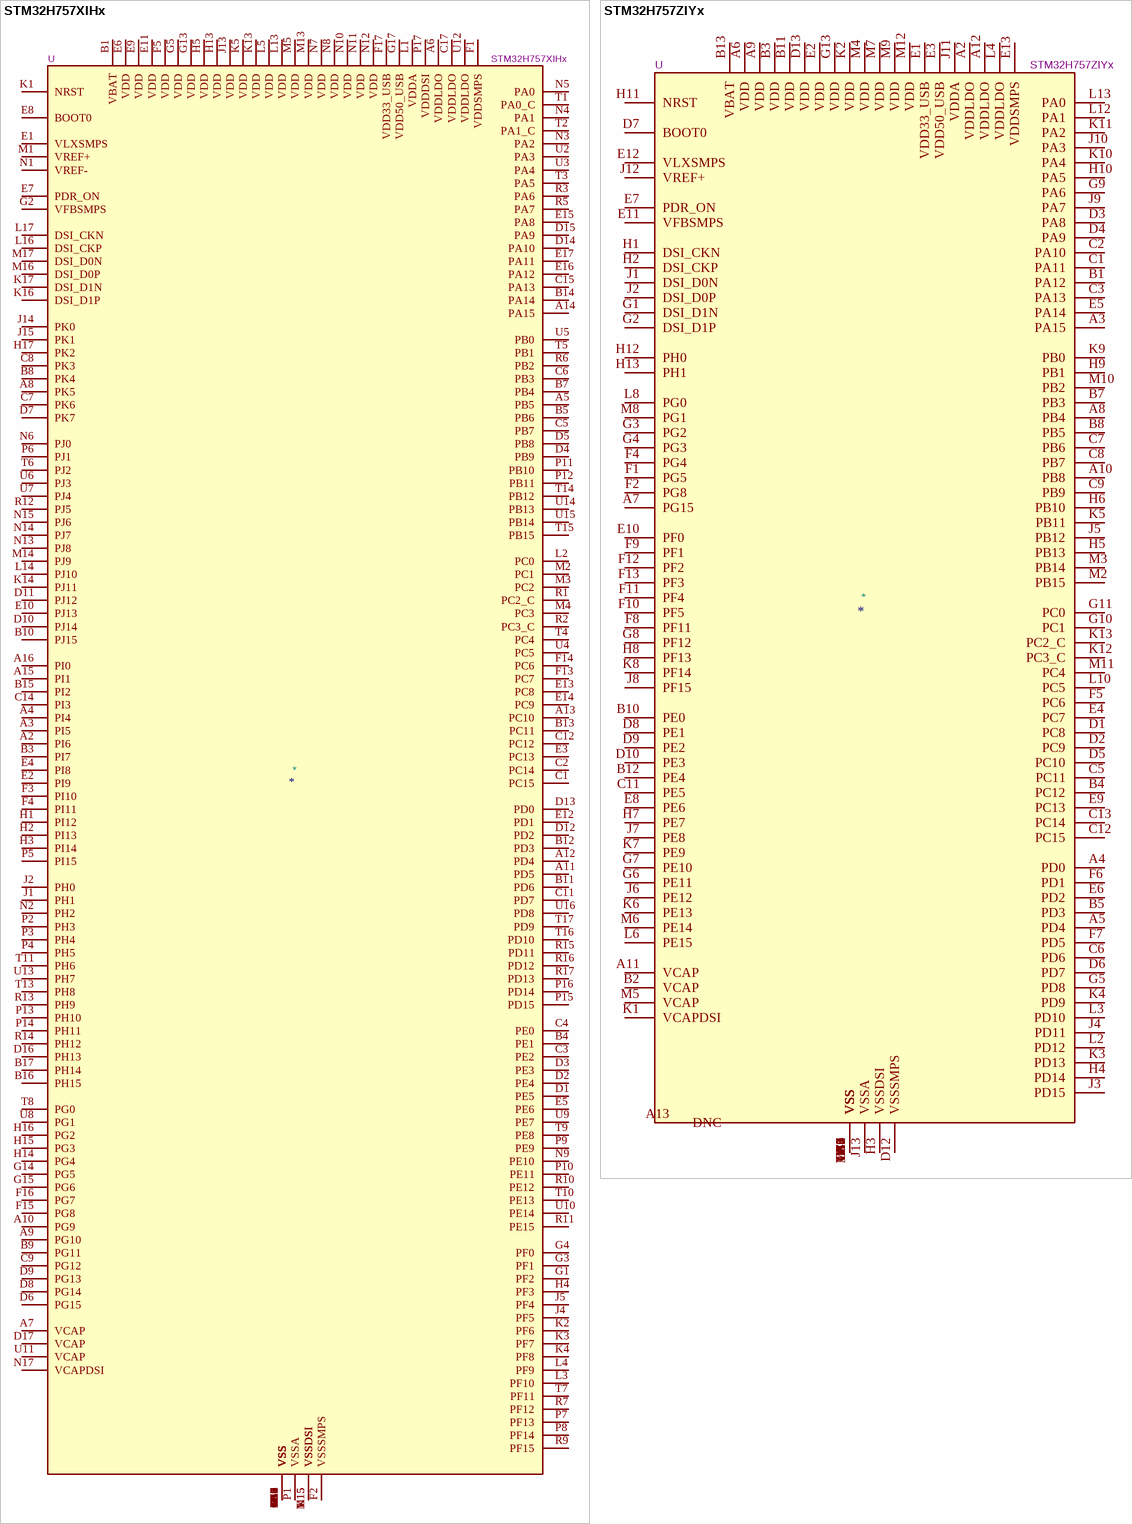
[diagram p87: symbols STM32H757XIHx to STM32H757ZIYx]

## STM32H757XIHx
designator *  value STM32H757XIHx  Reference: U
STMicroelectronics Arm Cortex-M7 MCU, 2048KB flash, 1024KB RAM, 480 MHz, 1.62-3.6V, 172 GPIO, TFBGA240; ki_keywords: Arm Cortex-M7 STM32H7 STM32H747/757; ki_fp_filters: TFBGA*14x14mm*Layout17x17*P0.8mm*; Footprint: Package_BGA:TFBGA-265_14x14mm_Layout17x17_P0.8mm; Datasheet: https://www.st.com/resource/en/datasheet/stm32h757xi.pdf; Description_: STMicroelectronics Arm Cortex-M7 MCU, 2048KB flash, 1024KB RAM, 480 MHz, 1.62-3.6V, 172 GPIO, TFBGA240
pins: A1 VSS, A2 PI6, A3 PI5, A4 PI4, A5 PB5, A6 VDDLDO, A7 VCAP, A8 PK5, A9 PG10, A10 PG9, A11 PD5, A12 PD4, A13 PC10, A14 PA15, A15 PI1, A16 PI0, A17 VSS, B1 VBAT, B2 VSS, B3 PI7, B4 PE1, B5 PB6, B6 VSS, B7 PB4, B8 PK4, B9 PG11, B10 PJ15, B11 PD6, B12 PD3, B13 PC11, B14 PA14, B15 PI2, B16 PH15, B17 PH14, C1 PC15, C2 PC14, C3 PE2, C4 PE0, C5 PB7, C6 PB3, C7 PK6, C8 PK3, C9 PG12, C10 VSS, C11 PD7, C12 PC12, C13 VSS, C14 PI3, C15 PA13, C16 VSS, C17 VDDLDO, D1 PE5, D2 PE4, D3 PE3, D4 PB9, D5 PB8, D6 PG15, D7 PK7, D8 PG14, D9 PG13, D10 PJ14, D11 PJ12, D12 PD2, D13 PD0, D14 PA10, D15 PA9, D16 PH13, D17 VCAP, E1 VLXSMPS, E2 PI9, E3 PC13, E4 PI8, E5 PE6, E6 VDD, E7 PDR_ON, E8 BOOT0, E9 VDD, E10 PJ13, E11 VDD, E12 PD1, E13 PC8, E14 PC9, E15 PA8, E16 PA12, E17 PA11, F1 VDDSMPS, F2 VSSSMPS, F3 PI10, F4 PI11, F5 VDD, F13 PC7, F14 PC6, F15 PG8, F16 PG7, F17 VDD33_USB, G1 PF2, G2 VFBSMPS, G3 PF1, G4 PF0, G5 VDD, G7 VSS, G8 VSS, G9 VSS, G10 VSS, G11 VSS, G13 VDD, G14 PG5, G15 PG6, G16 VSS, G17 VDD50_USB, H1 PI12, H2 PI13, H3 PI14, H4 PF3, H5 VDD, H7 VSS, H8 VSS, H9 VSS, H10 VSS, H11 VSS, H13 VDD, H14 PG4, H15 PG3, H16 PG2, H17 PK2, J1 PH1, J2 PH0, J3 VSS, J4 PF5, J5 PF4, J7 VSS, J8 VSS, J9 VSS, J10 VSS, J11 VSS, J13 VDD, J14 PK0, J15 PK1, J16 VSS, J17 VSS, K1 NRST, K2 PF6, K3 PF7, K4 PF8, K5 VDD, K7 VSS, K8 VSS, K9 VSS, K10 VSS, K11 VSS, K13 VDD, K14 PJ11, K15 VSSDSI, K16 DSI_D1P, K17 DSI_D1N, L1 VDDA, L2 PC0, L3 PF10, L4 PF9, L5 VDD, L7 VSS, L8 VSS, L9 VSS, L10 VSS, L11 VSS, L13 VDD, L14 PJ10, L15 VSSDSI, L16 DSI_CKP, L17 DSI_CKN, M1 VREF+, M2 PC1, M3 PC2, M4 PC3, M5 VDD, M13 VDD, M14 PJ9, M15 VSSDSI, M16 DSI_D0P, M17 DSI_D0N, N1 VREF-, N2 PH2, N3 PA2, N4 PA1, N5 PA0, N6 PJ0, N7 VDD, N8 VDD, N9 PE10, N10 VDD, N11 VDD, N12 VDD, N13 PJ8, N14 PJ7, N15 PJ6, N16 VSS, N17 VCAPDSI, P1 VSSA, P2 PH3, P3 PH4, P4 PH5, P5 PI15, P6 PJ1, P7 PF13, P8 PF14, P9 PE9, P10 PE11, P11 PB10, P12 PB11, P13 PH10, P14 PH11, P15 PD15, P16 PD14, P17 VDDDSI, R1 PC2_C, R2 PC3_C, R3 PA6, R4 VSS, R5 PA7, R6 PB2, R7 PF12, R8 VSS, R9 PF15, R10 PE12, R11 PE15, R12 PJ5, R13 PH9, R14 PH12, R15 PD11, R16 PD12, R17 PD13, T1 PA0_C, T2 PA1_C, T3 PA5, T4 PC4, T5 PB1, T6 PJ2, T7 PF11, T8 PG0, T9 PE8, T10 PE13, T11 PH6, T12 VSS, T13 PH8, T14 PB12, T15 PB15, T16 PD10, T17 PD9, U1 VSS, U2 PA3, U3 PA4, U4 PC5, U5 PB0, U6 PJ3, U7 PJ4, U8 PG1, U9 PE7, U10 PE14, U11 VCAP, U12 VDDLDO, U13 PH7, U14 PB13, U15 PB14, U16 PD8, U17 VSS

## STM32H757ZIYx
designator *  value STM32H757ZIYx  Reference: U
STMicroelectronics Arm Cortex-M7 MCU, 2048KB flash, 1024KB RAM, 480 MHz, 1.62-3.6V, 101 GPIO, WLCSP156; ki_keywords: Arm Cortex-M7 STM32H7 STM32H747/757; ki_fp_filters: ST*WLCSP*4.96x4.64mm*Layout13x12*P0.35mm*; Footprint: Package_CSP:ST_WLCSP-156_4.96x4.64mm_Layout13x12_P0.35mm; Datasheet: https://www.st.com/resource/en/datasheet/stm32h757zi.pdf; Description_: STMicroelectronics Arm Cortex-M7 MCU, 2048KB flash, 1024KB RAM, 480 MHz, 1.62-3.6V, 101 GPIO, WLCSP156
pins: A1 VSS, A2 VDDLDO, A3 PA15, A4 PD0, A5 PD4, A6 VDD, A7 PG15, A8 PB4, A9 VDD, A10 PB8, A11 VCAP, A12 VDDLDO, A13 DNC, B1 PA12, B2 VCAP, B3 VDD, B4 PC12, B5 PD3, B6 VSS, B7 PB3, B8 PB5, B9 VSS, B10 PE0, B11 VDD, B12 PE4, B13 VBAT, C1 PA11, C2 PA10, C3 PA13, C4 VSS, C5 PC11, C6 PD6, C7 PB6, C8 PB7, C9 PB9, C10 VSS, C11 PE5, C12 PC15, C13 PC14, D1 PC8, D2 PC9, D3 PA8, D4 PA9, D5 PC10, D6 PD7, D7 BOOT0, D8 PE1, D9 PE2, D10 PE3, D11 VSS, D12 VSSSMPS, D13 VDD, E1 VDD33_USB, E2 VDD, E3 VDD50_USB, E4 PC7, E5 PA14, E6 PD2, E7 PDR_ON, E8 PE6, E9 PC13, E10 PF0, E11 VFBSMPS, E12 VLXSMPS, E13 VDDSMPS, F1 PG5, F2 PG8, F3 VSS, F4 PG4, F5 PC6, F6 PD1, F7 PD5, F8 PF11, F9 PF1, F10 PF5, F11 PF4, F12 PF2, F13 PF3, G1 DSI_D1N, G2 DSI_D1P, G3 PG2, G4 PG3, G5 PD8, G6 PE11, G7 PE10, G8 PF12, G9 PA6, G10 PC1, G11 PC0, G12 VSS, G13 VDD, H1 DSI_CKN, H2 DSI_CKP, H3 VSSDSI, H4 PD14, H5 PB13, H6 PB10, H7 PE7, H8 PF13, H9 PB1, H10 PA5, H11 NRST, H12 PH0, H13 PH1, J1 DSI_D0N, J2 DSI_D0P, J3 PD15, J4 PD11, J5 PB12, J6 PE12, J7 PE8, J8 PF15, J9 PA7, J10 PA3, J11 VDDA, J12 VREF+, J13 VSSA, K1 VCAPDSI, K2 VDD, K3 PD13, K4 PD9, K5 PB11, K6 PE13, K7 PE9, K8 PF14, K9 PB0, K10 PA4, K11 PA2, K12 PC3_C, K13 PC2_C, L1 VSS, L2 PD12, L3 PD10, L4 VDDLDO, L5 VSS, L6 PE15, L7 VSS, L8 PG0, L9 VSS, L10 PC5, L11 VSS, L12 PA1, L13 PA0, M1 VSS, M2 PB15, M3 PB14, M4 VDD, M5 VCAP, M6 PE14, M7 VDD, M8 PG1, M9 VDD, M10 PB2, M11 PC4, M12 VDD, M13 VSS